# Altium integrated library Altera Cyclone III.IntLib: 225 symbols (part 29 of 48)
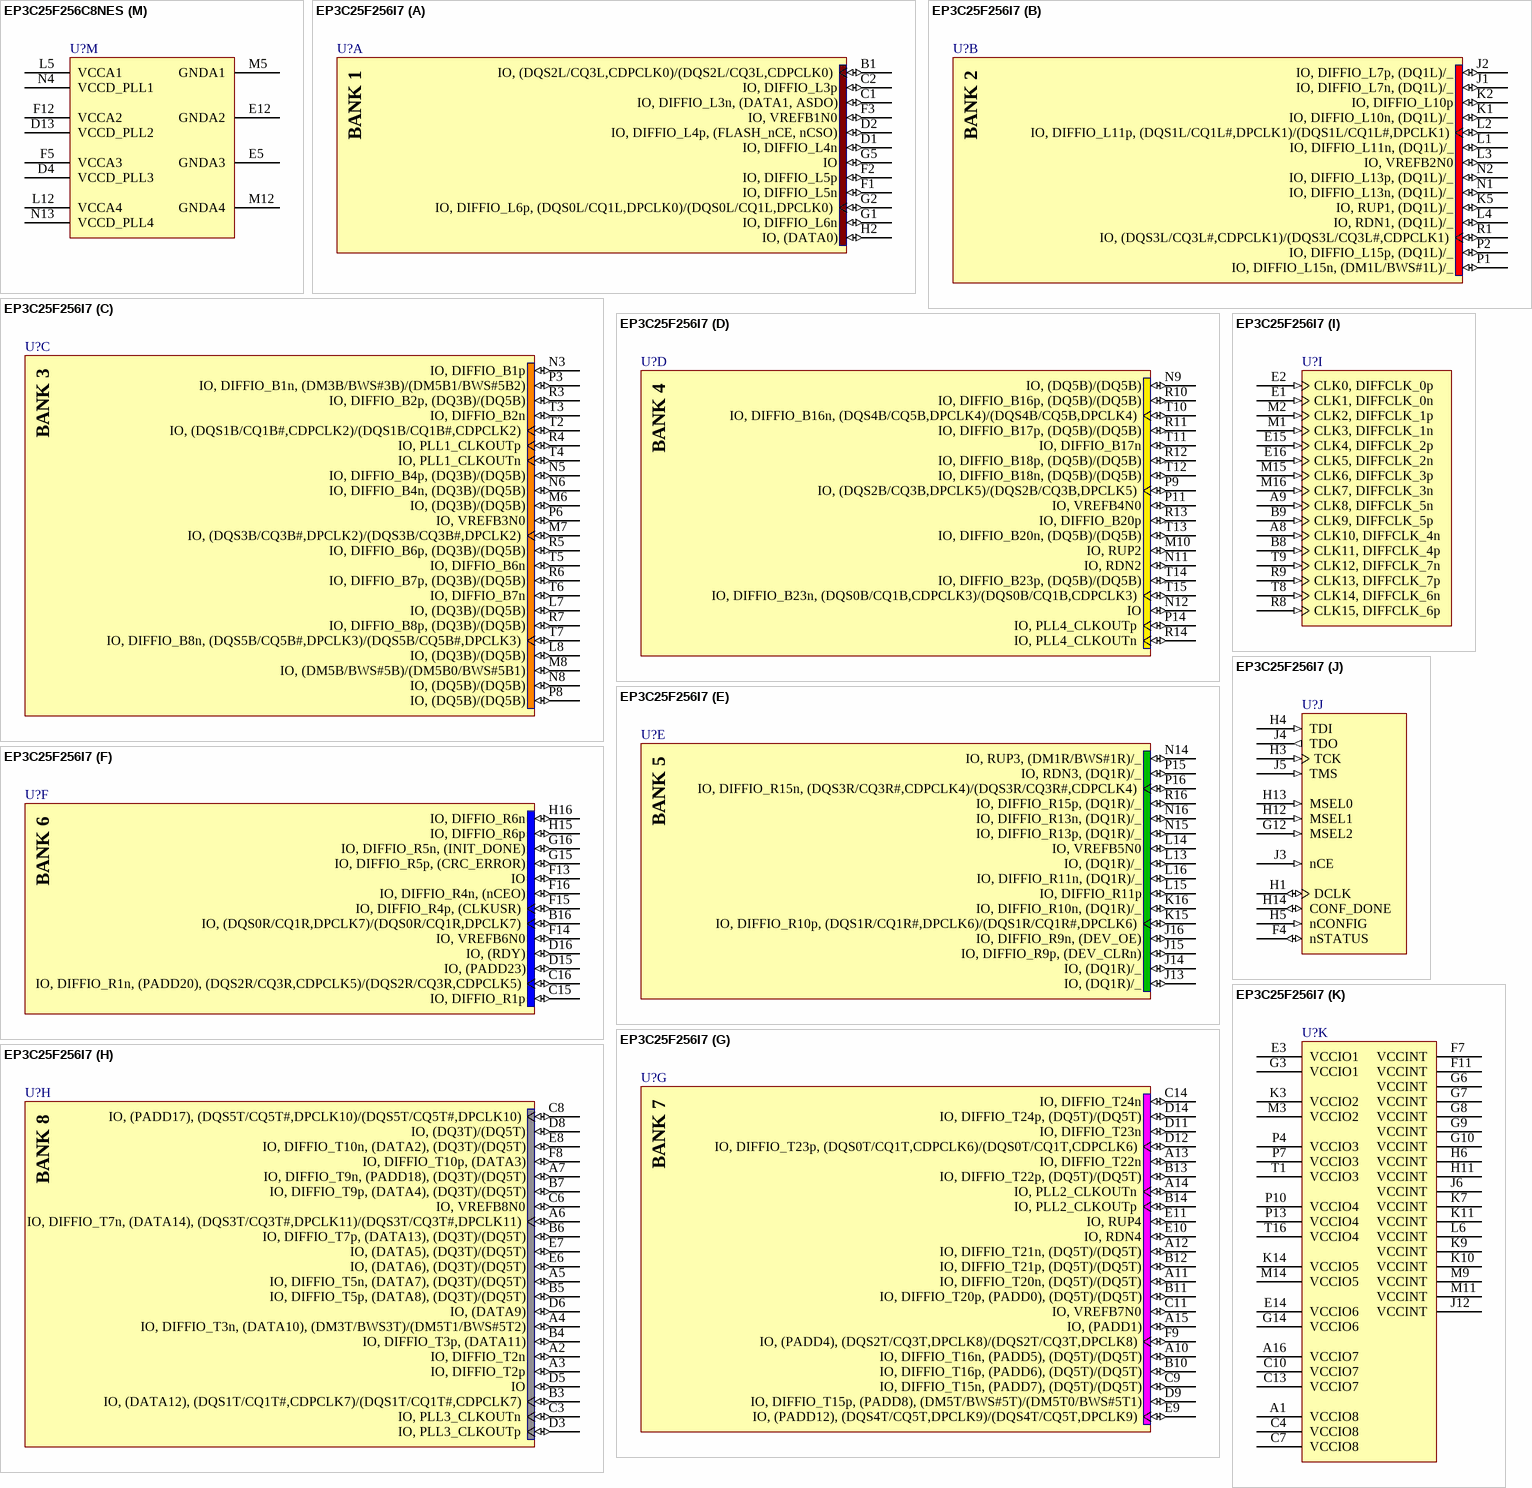
[diagram p418: symbols EP3C25F256C8NES to EP3C25F256I7]

## EP3C25F256C8NES
designator U?
Cyclone III Family FPGA, 156 I/O Pins, 4 PLLs, 256-Pin FBGA, Speed Grade 8, Commercial Grade, Pb-Free, Engineering Sample; Published: 14-Mar-2008; DatasheetVersion: ver2.0, May-2008; PackageVersion: ver15.1, May-2008; PackageReference: FBGA256-2; Publisher: Altium Limited; PackageDescription: 256-Ball FineLine Ball Grid Array (FBGA256) - Option 2 - Wire Bond; Code_JEDEC: MO-192-DAF-1; ComponentLink1Description: Manufacturer Link; ComponentLink1URL: http://www.altera.com/; ComponentLink2Description: Handbook (7.86MB); ComponentLink2URL: http://www.altera.com/literature/hb/cyc3/cyclone3_handbook.pdf; ComponentLink3Description: Packaging Specification; ComponentLink3URL: http://www.altera.com/literature/ds/dspkg.pdf
footprint FBGA256-2 (BGA, 256-Leads, Body 17x17mm, Pitch 1mm)
3D model EP3C25-FBGA256-2 (256-Ball FineLine Ball Grid Array (FBGA256) - Option 2 - Wire Bond)
signal-integrity model EP3C25_F256 (Cyclone III)
part A pins: B1 IO, (DQS2L/CQ3L,CDPCLK0)/(DQS2L/CQ3L,CDPCLK0) (io), C1 IO, DIFFIO_L3n, (DATA1, ASDO) (io), C2 IO, DIFFIO_L3p (io), D1 IO, DIFFIO_L4n (io), D2 IO, DIFFIO_L4p, (FLASH_nCE, nCSO) (io), F1 IO, DIFFIO_L5n (io), F2 IO, DIFFIO_L5p (io), F3 IO, VREFB1N0 (io), G1 IO, DIFFIO_L6n (io), G2 IO, DIFFIO_L6p, (DQS0L/CQ1L,DPCLK0)/(DQS0L/CQ1L,DPCLK0) (io), G5 IO (io), H2 IO, (DATA0) (io)
part B pins: J1 IO, DIFFIO_L7n, (DQ1L)/_ (io), J2 IO, DIFFIO_L7p, (DQ1L)/_ (io), K1 IO, DIFFIO_L10n, (DQ1L)/_ (io), K2 IO, DIFFIO_L10p (io), K5 IO, RUP1, (DQ1L)/_ (io), L1 IO, DIFFIO_L11n, (DQ1L)/_ (io), L2 IO, DIFFIO_L11p, (DQS1L/CQ1L#,DPCLK1)/(DQS1L/CQ1L#,DPCLK1) (io), L3 IO, VREFB2N0 (io), L4 IO, RDN1, (DQ1L)/_ (io), N1 IO, DIFFIO_L13n, (DQ1L)/_ (io), N2 IO, DIFFIO_L13p, (DQ1L)/_ (io), P1 IO, DIFFIO_L15n, (DM1L/BWS#1L)/_ (io), P2 IO, DIFFIO_L15p, (DQ1L)/_ (io), R1 IO, (DQS3L/CQ3L#,CDPCLK1)/(DQS3L/CQ3L#,CDPCLK1) (io)
part C pins: L7 IO, (DQ3B)/(DQ5B) (io), L8 IO, (DQ3B)/(DQ5B) (io), M6 IO, (DQ3B)/(DQ5B) (io), M7 IO, (DQS3B/CQ3B#,DPCLK2)/(DQS3B/CQ3B#,DPCLK2) (io), M8 IO, (DM5B/BWS#5B)/(DM5B0/BWS#5B1) (io), N3 IO, DIFFIO_B1p (io), N5 IO, DIFFIO_B4p, (DQ3B)/(DQ5B) (io), N6 IO, DIFFIO_B4n, (DQ3B)/(DQ5B) (io), N8 IO, (DQ5B)/(DQ5B) (io), P3 IO, DIFFIO_B1n, (DM3B/BWS#3B)/(DM5B1/BWS#5B2) (io), P6 IO, VREFB3N0 (io), P8 IO, (DQ5B)/(DQ5B) (io), R3 IO, DIFFIO_B2p, (DQ3B)/(DQ5B) (io), R4 IO, PLL1_CLKOUTp (io), R5 IO, DIFFIO_B6p, (DQ3B)/(DQ5B) (io), R6 IO, DIFFIO_B7p, (DQ3B)/(DQ5B) (io), R7 IO, DIFFIO_B8p, (DQ3B)/(DQ5B) (io), T2 IO, (DQS1B/CQ1B#,CDPCLK2)/(DQS1B/CQ1B#,CDPCLK2) (io), T3 IO, DIFFIO_B2n (io), T4 IO, PLL1_CLKOUTn (io), T5 IO, DIFFIO_B6n (io), T6 IO, DIFFIO_B7n (io), T7 IO, DIFFIO_B8n, (DQS5B/CQ5B#,DPCLK3)/(DQS5B/CQ5B#,DPCLK3) (io)
part D pins: M10 IO, RUP2 (io), N9 IO, (DQ5B)/(DQ5B) (io), N11 IO, RDN2 (io), N12 IO (io), P9 IO, (DQS2B/CQ3B,DPCLK5)/(DQS2B/CQ3B,DPCLK5) (io), P11 IO, VREFB4N0 (io), P14 IO, PLL4_CLKOUTp (io), R10 IO, DIFFIO_B16p, (DQ5B)/(DQ5B) (io), R11 IO, DIFFIO_B17p, (DQ5B)/(DQ5B) (io), R12 IO, DIFFIO_B18p, (DQ5B)/(DQ5B) (io), R13 IO, DIFFIO_B20p (io), R14 IO, PLL4_CLKOUTn (io), T10 IO, DIFFIO_B16n, (DQS4B/CQ5B,DPCLK4)/(DQS4B/CQ5B,DPCLK4) (io), T11 IO, DIFFIO_B17n (io), T12 IO, DIFFIO_B18n, (DQ5B)/(DQ5B) (io), T13 IO, DIFFIO_B20n, (DQ5B)/(DQ5B) (io), T14 IO, DIFFIO_B23p, (DQ5B)/(DQ5B) (io), T15 IO, DIFFIO_B23n, (DQS0B/CQ1B,CDPCLK3)/(DQS0B/CQ1B,CDPCLK3) (io)
part E pins: J13 IO, (DQ1R)/_ (io), J14 IO, (DQ1R)/_ (io), J15 IO, DIFFIO_R9p, (DEV_CLRn) (io), J16 IO, DIFFIO_R9n, (DEV_OE) (io), K15 IO, DIFFIO_R10p, (DQS1R/CQ1R#,DPCLK6)/(DQS1R/CQ1R#,DPCLK6) (io), K16 IO, DIFFIO_R10n, (DQ1R)/_ (io), L13 IO, (DQ1R)/_ (io), L14 IO, VREFB5N0 (io), L15 IO, DIFFIO_R11p (io), L16 IO, DIFFIO_R11n, (DQ1R)/_ (io), N14 IO, RUP3, (DM1R/BWS#1R)/_ (io), N15 IO, DIFFIO_R13p, (DQ1R)/_ (io), N16 IO, DIFFIO_R13n, (DQ1R)/_ (io), P15 IO, RDN3, (DQ1R)/_ (io), P16 IO, DIFFIO_R15n, (DQS3R/CQ3R#,CDPCLK4)/(DQS3R/CQ3R#,CDPCLK4) (io), R16 IO, DIFFIO_R15p, (DQ1R)/_ (io)
part F pins: B16 IO, (DQS0R/CQ1R,DPCLK7)/(DQS0R/CQ1R,DPCLK7) (io), C15 IO, DIFFIO_R1p (io), C16 IO, DIFFIO_R1n, (PADD20), (DQS2R/CQ3R,CDPCLK5)/(DQS2R/CQ3R,CDPCLK5) (io), D15 IO, (PADD23) (io), D16 IO, (RDY) (io), F13 IO (io), F14 IO, VREFB6N0 (io), F15 IO, DIFFIO_R4p, (CLKUSR) (io), F16 IO, DIFFIO_R4n, (nCEO) (io), G15 IO, DIFFIO_R5p, (CRC_ERROR) (io), G16 IO, DIFFIO_R5n, (INIT_DONE) (io), H15 IO, DIFFIO_R6p (io), H16 IO, DIFFIO_R6n (io)
part G pins: A10 IO, DIFFIO_T16n, (PADD5), (DQ5T)/(DQ5T) (io), A11 IO, DIFFIO_T20n, (DQ5T)/(DQ5T) (io), A12 IO, DIFFIO_T21n, (DQ5T)/(DQ5T) (io), A13 IO, DIFFIO_T22n (io), A14 IO, PLL2_CLKOUTn (io), A15 IO, (PADD1) (io), B10 IO, DIFFIO_T16p, (PADD6), (DQ5T)/(DQ5T) (io), B11 IO, DIFFIO_T20p, (PADD0), (DQ5T)/(DQ5T) (io), B12 IO, DIFFIO_T21p, (DQ5T)/(DQ5T) (io), B13 IO, DIFFIO_T22p, (DQ5T)/(DQ5T) (io), B14 IO, PLL2_CLKOUTp (io), C9 IO, DIFFIO_T15n, (PADD7), (DQ5T)/(DQ5T) (io), C11 IO, VREFB7N0 (io), C14 IO, DIFFIO_T24n (io), D9 IO, DIFFIO_T15p, (PADD8), (DM5T/BWS#5T)/(DM5T0/BWS#5T1) (io), D11 IO, DIFFIO_T23n (io), D12 IO, DIFFIO_T23p, (DQS0T/CQ1T,CDPCLK6)/(DQS0T/CQ1T,CDPCLK6) (io), D14 IO, DIFFIO_T24p, (DQ5T)/(DQ5T) (io), E9 IO, (PADD12), (DQS4T/CQ5T,DPCLK9)/(DQS4T/CQ5T,DPCLK9) (io), E10 IO, RDN4 (io), E11 IO, RUP4 (io), F9 IO, (PADD4), (DQS2T/CQ3T,DPCLK8)/(DQS2T/CQ3T,DPCLK8) (io)
part H pins: A2 IO, DIFFIO_T2n (io), A3 IO, DIFFIO_T2p (io), A4 IO, DIFFIO_T3n, (DATA10), (DM3T/BWS3T)/(DM5T1/BWS#5T2) (io), A5 IO, DIFFIO_T5n, (DATA7), (DQ3T)/(DQ5T) (io), A6 IO, DIFFIO_T7n, (DATA14), (DQS3T/CQ3T#,DPCLK11)/(DQS3T/CQ3T#,DPCLK11) (io), A7 IO, DIFFIO_T9n, (PADD18), (DQ3T)/(DQ5T) (io), B3 IO, (DATA12), (DQS1T/CQ1T#,CDPCLK7)/(DQS1T/CQ1T#,CDPCLK7) (io), B4 IO, DIFFIO_T3p, (DATA11) (io), B5 IO, DIFFIO_T5p, (DATA8), (DQ3T)/(DQ5T) (io), B6 IO, DIFFIO_T7p, (DATA13), (DQ3T)/(DQ5T) (io), B7 IO, DIFFIO_T9p, (DATA4), (DQ3T)/(DQ5T) (io), C3 IO, PLL3_CLKOUTn (io), C6 IO, VREFB8N0 (io), C8 IO, (PADD17), (DQS5T/CQ5T#,DPCLK10)/(DQS5T/CQ5T#,DPCLK10) (io), D3 IO, PLL3_CLKOUTp (io), D5 IO (io), D6 IO, (DATA9) (io), D8 IO, (DQ3T)/(DQ5T) (io), E6 IO, (DATA6), (DQ3T)/(DQ5T) (io), E7 IO, (DATA5), (DQ3T)/(DQ5T) (io), E8 IO, DIFFIO_T10n, (DATA2), (DQ3T)/(DQ5T) (io), F8 IO, DIFFIO_T10p, (DATA3) (io)
part I pins: A8 CLK10, DIFFCLK_4n (in), A9 CLK8, DIFFCLK_5n (in), B8 CLK11, DIFFCLK_4p (in), B9 CLK9, DIFFCLK_5p (in), E1 CLK1, DIFFCLK_0n (in), E2 CLK0, DIFFCLK_0p (in), E15 CLK4, DIFFCLK_2p (in), E16 CLK5, DIFFCLK_2n (in), M1 CLK3, DIFFCLK_1n (in), M2 CLK2, DIFFCLK_1p (in), M15 CLK6, DIFFCLK_3p (in), M16 CLK7, DIFFCLK_3n (in), R8 CLK15, DIFFCLK_6p (in), R9 CLK13, DIFFCLK_7p (in), T8 CLK14, DIFFCLK_6n (in), T9 CLK12, DIFFCLK_7n (in)
part J pins: F4 nSTATUS (io), G12 MSEL2 (in), H1 DCLK (io), H3 TCK (in), H4 TDI (in), H5 nCONFIG (in), H12 MSEL1 (in), H13 MSEL0 (in), H14 CONF_DONE (io), J3 nCE (in), J4 TDO (out), J5 TMS (in)
part K pins: A1 VCCIO8 (power), A16 VCCIO7 (power), C4 VCCIO8 (power), C7 VCCIO8 (power), C10 VCCIO7 (power), C13 VCCIO7 (power), E3 VCCIO1 (power), E14 VCCIO6 (power), F7 VCCINT (power), F11 VCCINT (power), G3 VCCIO1 (power), G6 VCCINT (power), G7 VCCINT (power), G8 VCCINT (power), G9 VCCINT (power), G10 VCCINT (power), G14 VCCIO6 (power), H6 VCCINT (power), H11 VCCINT (power), J6 VCCINT (power), J12 VCCINT (power), K3 VCCIO2 (power), K7 VCCINT (power), K9 VCCINT (power), K10 VCCINT (power), K11 VCCINT (power), K14 VCCIO5 (power), L6 VCCINT (power), M3 VCCIO2 (power), M9 VCCINT (power), M11 VCCINT (power), M14 VCCIO5 (power), P4 VCCIO3 (power), P7 VCCIO3 (power), P10 VCCIO4 (power), P13 VCCIO4 (power), T1 VCCIO3 (power), T16 VCCIO4 (power)
part L pins: B2 GND (power), B15 GND (power), C5 GND (power), C12 GND (power), D7 GND (power), D10 GND (power), E4 GND (power), E13 GND (power), F6 GND (power), F10 GND (power), G4 GND (power), G11 GND (power), G13 GND (power), H7 GND (power), H8 GND (power), H9 GND (power), H10 GND (power), J7 GND (power), J8 GND (power), J9 GND (power), J10 GND (power), J11 GND (power), K4 GND (power), K6 GND (power), K8 GND (power), K12 GND (power), K13 GND (power), L9 GND (power), L10 GND (power), L11 GND (power), M4 GND (power), M13 GND (power), N7 GND (power), N10 GND (power), P5 GND (power), P12 GND (power), R2 GND (power), R15 GND (power)
part M pins: D4 VCCD_PLL3 (power), D13 VCCD_PLL2 (power), E5 GNDA3 (power), E12 GNDA2 (power), F5 VCCA3 (power), F12 VCCA2 (power), L5 VCCA1 (power), L12 VCCA4 (power), M5 GNDA1 (power), M12 GNDA4 (power), N4 VCCD_PLL1 (power), N13 VCCD_PLL4 (power)
part A text: BANK 1
part B text: BANK 2
part C text: BANK 3
part D text: BANK 4
part E text: BANK 5
part F text: BANK 6
part G text: BANK 7
part H text: BANK 8

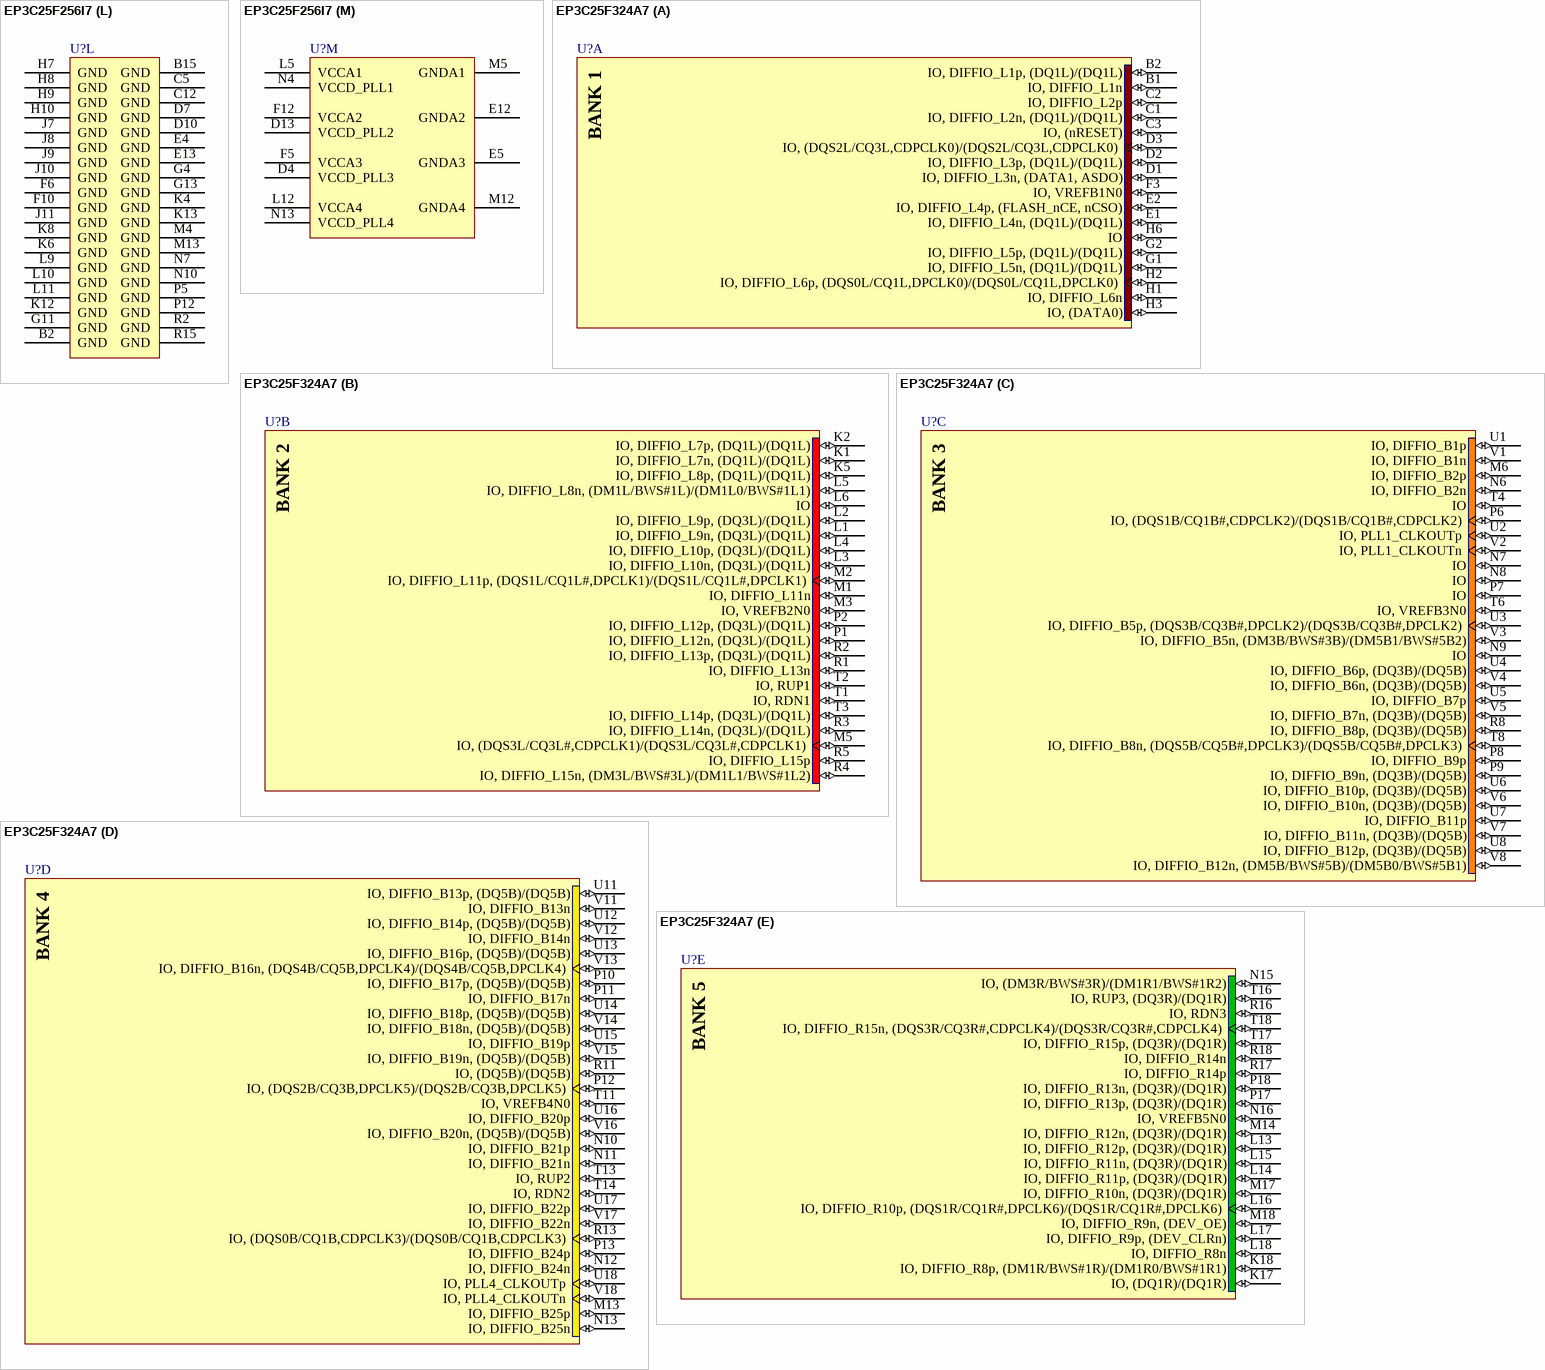
[diagram p139: symbols EP3C25F256I7 to EP3C25F324A7]

## EP3C25F256I7
designator U?
Cyclone III Family FPGA, 156 I/O Pins, 4 PLLs, 256-Pin FBGA, Speed Grade 7, Industrial Grade; Published: 26-Feb-2007; DatasheetVersion: ver2.0, May-2008; PackageVersion: ver15.1, May-2008; PackageReference: FBGA256-2; Publisher: Altium Limited; PackageDescription: 256-Ball FineLine Ball Grid Array (FBGA256) - Option 2 - Wire Bond; Code_JEDEC: MO-192-DAF-1; ComponentLink1Description: Manufacturer Link; ComponentLink1URL: http://www.altera.com/; ComponentLink2Description: Handbook (7.86MB); ComponentLink2URL: http://www.altera.com/literature/hb/cyc3/cyclone3_handbook.pdf; ComponentLink3Description: Packaging Specification; ComponentLink3URL: http://www.altera.com/literature/ds/dspkg.pdf
footprint FBGA256-2 (BGA, 256-Leads, Body 17x17mm, Pitch 1mm)
3D model EP3C25-FBGA256-2 (256-Ball FineLine Ball Grid Array (FBGA256) - Option 2 - Wire Bond)
signal-integrity model EP3C25_F256 (Cyclone III)
part A pins: B1 IO, (DQS2L/CQ3L,CDPCLK0)/(DQS2L/CQ3L,CDPCLK0) (io), C1 IO, DIFFIO_L3n, (DATA1, ASDO) (io), C2 IO, DIFFIO_L3p (io), D1 IO, DIFFIO_L4n (io), D2 IO, DIFFIO_L4p, (FLASH_nCE, nCSO) (io), F1 IO, DIFFIO_L5n (io), F2 IO, DIFFIO_L5p (io), F3 IO, VREFB1N0 (io), G1 IO, DIFFIO_L6n (io), G2 IO, DIFFIO_L6p, (DQS0L/CQ1L,DPCLK0)/(DQS0L/CQ1L,DPCLK0) (io), G5 IO (io), H2 IO, (DATA0) (io)
part B pins: J1 IO, DIFFIO_L7n, (DQ1L)/_ (io), J2 IO, DIFFIO_L7p, (DQ1L)/_ (io), K1 IO, DIFFIO_L10n, (DQ1L)/_ (io), K2 IO, DIFFIO_L10p (io), K5 IO, RUP1, (DQ1L)/_ (io), L1 IO, DIFFIO_L11n, (DQ1L)/_ (io), L2 IO, DIFFIO_L11p, (DQS1L/CQ1L#,DPCLK1)/(DQS1L/CQ1L#,DPCLK1) (io), L3 IO, VREFB2N0 (io), L4 IO, RDN1, (DQ1L)/_ (io), N1 IO, DIFFIO_L13n, (DQ1L)/_ (io), N2 IO, DIFFIO_L13p, (DQ1L)/_ (io), P1 IO, DIFFIO_L15n, (DM1L/BWS#1L)/_ (io), P2 IO, DIFFIO_L15p, (DQ1L)/_ (io), R1 IO, (DQS3L/CQ3L#,CDPCLK1)/(DQS3L/CQ3L#,CDPCLK1) (io)
part C pins: L7 IO, (DQ3B)/(DQ5B) (io), L8 IO, (DQ3B)/(DQ5B) (io), M6 IO, (DQ3B)/(DQ5B) (io), M7 IO, (DQS3B/CQ3B#,DPCLK2)/(DQS3B/CQ3B#,DPCLK2) (io), M8 IO, (DM5B/BWS#5B)/(DM5B0/BWS#5B1) (io), N3 IO, DIFFIO_B1p (io), N5 IO, DIFFIO_B4p, (DQ3B)/(DQ5B) (io), N6 IO, DIFFIO_B4n, (DQ3B)/(DQ5B) (io), N8 IO, (DQ5B)/(DQ5B) (io), P3 IO, DIFFIO_B1n, (DM3B/BWS#3B)/(DM5B1/BWS#5B2) (io), P6 IO, VREFB3N0 (io), P8 IO, (DQ5B)/(DQ5B) (io), R3 IO, DIFFIO_B2p, (DQ3B)/(DQ5B) (io), R4 IO, PLL1_CLKOUTp (io), R5 IO, DIFFIO_B6p, (DQ3B)/(DQ5B) (io), R6 IO, DIFFIO_B7p, (DQ3B)/(DQ5B) (io), R7 IO, DIFFIO_B8p, (DQ3B)/(DQ5B) (io), T2 IO, (DQS1B/CQ1B#,CDPCLK2)/(DQS1B/CQ1B#,CDPCLK2) (io), T3 IO, DIFFIO_B2n (io), T4 IO, PLL1_CLKOUTn (io), T5 IO, DIFFIO_B6n (io), T6 IO, DIFFIO_B7n (io), T7 IO, DIFFIO_B8n, (DQS5B/CQ5B#,DPCLK3)/(DQS5B/CQ5B#,DPCLK3) (io)
part D pins: M10 IO, RUP2 (io), N9 IO, (DQ5B)/(DQ5B) (io), N11 IO, RDN2 (io), N12 IO (io), P9 IO, (DQS2B/CQ3B,DPCLK5)/(DQS2B/CQ3B,DPCLK5) (io), P11 IO, VREFB4N0 (io), P14 IO, PLL4_CLKOUTp (io), R10 IO, DIFFIO_B16p, (DQ5B)/(DQ5B) (io), R11 IO, DIFFIO_B17p, (DQ5B)/(DQ5B) (io), R12 IO, DIFFIO_B18p, (DQ5B)/(DQ5B) (io), R13 IO, DIFFIO_B20p (io), R14 IO, PLL4_CLKOUTn (io), T10 IO, DIFFIO_B16n, (DQS4B/CQ5B,DPCLK4)/(DQS4B/CQ5B,DPCLK4) (io), T11 IO, DIFFIO_B17n (io), T12 IO, DIFFIO_B18n, (DQ5B)/(DQ5B) (io), T13 IO, DIFFIO_B20n, (DQ5B)/(DQ5B) (io), T14 IO, DIFFIO_B23p, (DQ5B)/(DQ5B) (io), T15 IO, DIFFIO_B23n, (DQS0B/CQ1B,CDPCLK3)/(DQS0B/CQ1B,CDPCLK3) (io)
part E pins: J13 IO, (DQ1R)/_ (io), J14 IO, (DQ1R)/_ (io), J15 IO, DIFFIO_R9p, (DEV_CLRn) (io), J16 IO, DIFFIO_R9n, (DEV_OE) (io), K15 IO, DIFFIO_R10p, (DQS1R/CQ1R#,DPCLK6)/(DQS1R/CQ1R#,DPCLK6) (io), K16 IO, DIFFIO_R10n, (DQ1R)/_ (io), L13 IO, (DQ1R)/_ (io), L14 IO, VREFB5N0 (io), L15 IO, DIFFIO_R11p (io), L16 IO, DIFFIO_R11n, (DQ1R)/_ (io), N14 IO, RUP3, (DM1R/BWS#1R)/_ (io), N15 IO, DIFFIO_R13p, (DQ1R)/_ (io), N16 IO, DIFFIO_R13n, (DQ1R)/_ (io), P15 IO, RDN3, (DQ1R)/_ (io), P16 IO, DIFFIO_R15n, (DQS3R/CQ3R#,CDPCLK4)/(DQS3R/CQ3R#,CDPCLK4) (io), R16 IO, DIFFIO_R15p, (DQ1R)/_ (io)
part F pins: B16 IO, (DQS0R/CQ1R,DPCLK7)/(DQS0R/CQ1R,DPCLK7) (io), C15 IO, DIFFIO_R1p (io), C16 IO, DIFFIO_R1n, (PADD20), (DQS2R/CQ3R,CDPCLK5)/(DQS2R/CQ3R,CDPCLK5) (io), D15 IO, (PADD23) (io), D16 IO, (RDY) (io), F13 IO (io), F14 IO, VREFB6N0 (io), F15 IO, DIFFIO_R4p, (CLKUSR) (io), F16 IO, DIFFIO_R4n, (nCEO) (io), G15 IO, DIFFIO_R5p, (CRC_ERROR) (io), G16 IO, DIFFIO_R5n, (INIT_DONE) (io), H15 IO, DIFFIO_R6p (io), H16 IO, DIFFIO_R6n (io)
part G pins: A10 IO, DIFFIO_T16n, (PADD5), (DQ5T)/(DQ5T) (io), A11 IO, DIFFIO_T20n, (DQ5T)/(DQ5T) (io), A12 IO, DIFFIO_T21n, (DQ5T)/(DQ5T) (io), A13 IO, DIFFIO_T22n (io), A14 IO, PLL2_CLKOUTn (io), A15 IO, (PADD1) (io), B10 IO, DIFFIO_T16p, (PADD6), (DQ5T)/(DQ5T) (io), B11 IO, DIFFIO_T20p, (PADD0), (DQ5T)/(DQ5T) (io), B12 IO, DIFFIO_T21p, (DQ5T)/(DQ5T) (io), B13 IO, DIFFIO_T22p, (DQ5T)/(DQ5T) (io), B14 IO, PLL2_CLKOUTp (io), C9 IO, DIFFIO_T15n, (PADD7), (DQ5T)/(DQ5T) (io), C11 IO, VREFB7N0 (io), C14 IO, DIFFIO_T24n (io), D9 IO, DIFFIO_T15p, (PADD8), (DM5T/BWS#5T)/(DM5T0/BWS#5T1) (io), D11 IO, DIFFIO_T23n (io), D12 IO, DIFFIO_T23p, (DQS0T/CQ1T,CDPCLK6)/(DQS0T/CQ1T,CDPCLK6) (io), D14 IO, DIFFIO_T24p, (DQ5T)/(DQ5T) (io), E9 IO, (PADD12), (DQS4T/CQ5T,DPCLK9)/(DQS4T/CQ5T,DPCLK9) (io), E10 IO, RDN4 (io), E11 IO, RUP4 (io), F9 IO, (PADD4), (DQS2T/CQ3T,DPCLK8)/(DQS2T/CQ3T,DPCLK8) (io)
part H pins: A2 IO, DIFFIO_T2n (io), A3 IO, DIFFIO_T2p (io), A4 IO, DIFFIO_T3n, (DATA10), (DM3T/BWS3T)/(DM5T1/BWS#5T2) (io), A5 IO, DIFFIO_T5n, (DATA7), (DQ3T)/(DQ5T) (io), A6 IO, DIFFIO_T7n, (DATA14), (DQS3T/CQ3T#,DPCLK11)/(DQS3T/CQ3T#,DPCLK11) (io), A7 IO, DIFFIO_T9n, (PADD18), (DQ3T)/(DQ5T) (io), B3 IO, (DATA12), (DQS1T/CQ1T#,CDPCLK7)/(DQS1T/CQ1T#,CDPCLK7) (io), B4 IO, DIFFIO_T3p, (DATA11) (io), B5 IO, DIFFIO_T5p, (DATA8), (DQ3T)/(DQ5T) (io), B6 IO, DIFFIO_T7p, (DATA13), (DQ3T)/(DQ5T) (io), B7 IO, DIFFIO_T9p, (DATA4), (DQ3T)/(DQ5T) (io), C3 IO, PLL3_CLKOUTn (io), C6 IO, VREFB8N0 (io), C8 IO, (PADD17), (DQS5T/CQ5T#,DPCLK10)/(DQS5T/CQ5T#,DPCLK10) (io), D3 IO, PLL3_CLKOUTp (io), D5 IO (io), D6 IO, (DATA9) (io), D8 IO, (DQ3T)/(DQ5T) (io), E6 IO, (DATA6), (DQ3T)/(DQ5T) (io), E7 IO, (DATA5), (DQ3T)/(DQ5T) (io), E8 IO, DIFFIO_T10n, (DATA2), (DQ3T)/(DQ5T) (io), F8 IO, DIFFIO_T10p, (DATA3) (io)
part I pins: A8 CLK10, DIFFCLK_4n (in), A9 CLK8, DIFFCLK_5n (in), B8 CLK11, DIFFCLK_4p (in), B9 CLK9, DIFFCLK_5p (in), E1 CLK1, DIFFCLK_0n (in), E2 CLK0, DIFFCLK_0p (in), E15 CLK4, DIFFCLK_2p (in), E16 CLK5, DIFFCLK_2n (in), M1 CLK3, DIFFCLK_1n (in), M2 CLK2, DIFFCLK_1p (in), M15 CLK6, DIFFCLK_3p (in), M16 CLK7, DIFFCLK_3n (in), R8 CLK15, DIFFCLK_6p (in), R9 CLK13, DIFFCLK_7p (in), T8 CLK14, DIFFCLK_6n (in), T9 CLK12, DIFFCLK_7n (in)
part J pins: F4 nSTATUS (io), G12 MSEL2 (in), H1 DCLK (io), H3 TCK (in), H4 TDI (in), H5 nCONFIG (in), H12 MSEL1 (in), H13 MSEL0 (in), H14 CONF_DONE (io), J3 nCE (in), J4 TDO (out), J5 TMS (in)
part K pins: A1 VCCIO8 (power), A16 VCCIO7 (power), C4 VCCIO8 (power), C7 VCCIO8 (power), C10 VCCIO7 (power), C13 VCCIO7 (power), E3 VCCIO1 (power), E14 VCCIO6 (power), F7 VCCINT (power), F11 VCCINT (power), G3 VCCIO1 (power), G6 VCCINT (power), G7 VCCINT (power), G8 VCCINT (power), G9 VCCINT (power), G10 VCCINT (power), G14 VCCIO6 (power), H6 VCCINT (power), H11 VCCINT (power), J6 VCCINT (power), J12 VCCINT (power), K3 VCCIO2 (power), K7 VCCINT (power), K9 VCCINT (power), K10 VCCINT (power), K11 VCCINT (power), K14 VCCIO5 (power), L6 VCCINT (power), M3 VCCIO2 (power), M9 VCCINT (power), M11 VCCINT (power), M14 VCCIO5 (power), P4 VCCIO3 (power), P7 VCCIO3 (power), P10 VCCIO4 (power), P13 VCCIO4 (power), T1 VCCIO3 (power), T16 VCCIO4 (power)
part L pins: B2 GND (power), B15 GND (power), C5 GND (power), C12 GND (power), D7 GND (power), D10 GND (power), E4 GND (power), E13 GND (power), F6 GND (power), F10 GND (power), G4 GND (power), G11 GND (power), G13 GND (power), H7 GND (power), H8 GND (power), H9 GND (power), H10 GND (power), J7 GND (power), J8 GND (power), J9 GND (power), J10 GND (power), J11 GND (power), K4 GND (power), K6 GND (power), K8 GND (power), K12 GND (power), K13 GND (power), L9 GND (power), L10 GND (power), L11 GND (power), M4 GND (power), M13 GND (power), N7 GND (power), N10 GND (power), P5 GND (power), P12 GND (power), R2 GND (power), R15 GND (power)
part M pins: D4 VCCD_PLL3 (power), D13 VCCD_PLL2 (power), E5 GNDA3 (power), E12 GNDA2 (power), F5 VCCA3 (power), F12 VCCA2 (power), L5 VCCA1 (power), L12 VCCA4 (power), M5 GNDA1 (power), M12 GNDA4 (power), N4 VCCD_PLL1 (power), N13 VCCD_PLL4 (power)
part A text: BANK 1
part B text: BANK 2
part C text: BANK 3
part D text: BANK 4
part E text: BANK 5
part F text: BANK 6
part G text: BANK 7
part H text: BANK 8

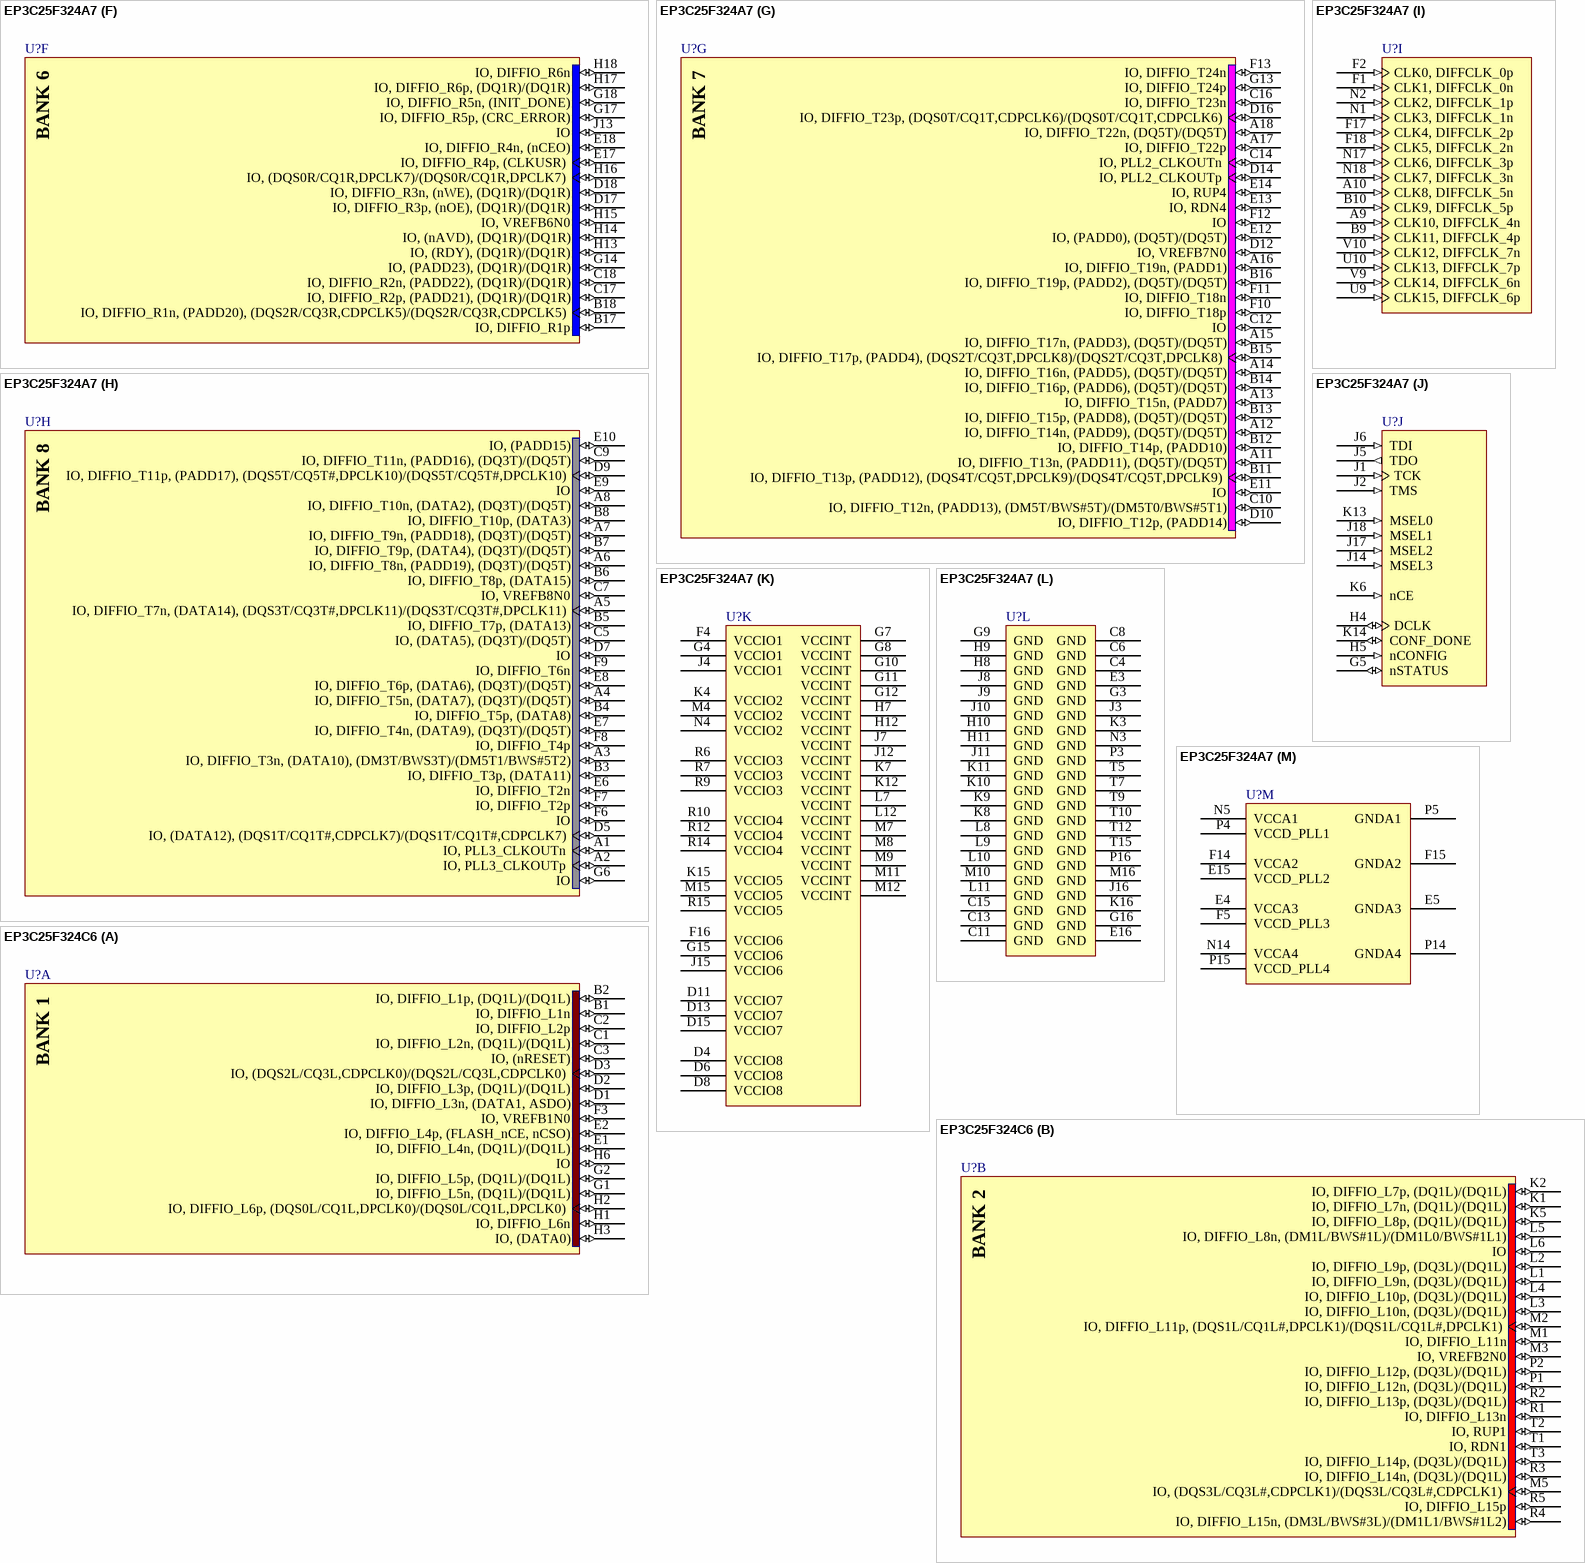
[diagram p140: symbols EP3C25F324A7 to EP3C25F324C6]

## EP3C25F324A7
designator U?
Cyclone III Family FPGA, 215 I/O Pins, 4 PLLs, 324-Pin FBGA, Speed Grade 7, Automotive Grade, Pb-free; Published: 27-Jun-2008; DatasheetVersion: ver2.0, May-2008; PackageVersion: ver15.1, May-2008; PackageReference: FBGA324; Publisher: Altium Limited; PackageDescription: 324-Ball FineLine Ball Grid Array (FBGA324) - Wire Bond; Code_JEDEC: MS-034-AAG-1; Code_IPC: BGA100P18X18-324; ComponentLink1Description: Manufacturer Link; ComponentLink1URL: http://www.altera.com/; ComponentLink2Description: Handbook (7.86MB); ComponentLink2URL: http://www.altera.com/literature/hb/cyc3/cyclone3_handbook.pdf; ComponentLink3Description: Packaging Specification; ComponentLink3URL: http://www.altera.com/literature/ds/dspkg.pdf
footprint FBGA324 (BGA, 324-Leads, Body 19x19mm, Pitch 1mm)
3D model EP3C25-FBGA324 (324-Ball FineLine Ball Grid Array (FBGA324) - Wire Bond)
signal-integrity model EP3C25_F324 (Cyclone III)
part A pins: B1 IO, DIFFIO_L1n (io), B2 IO, DIFFIO_L1p, (DQ1L)/(DQ1L) (io), C1 IO, DIFFIO_L2n, (DQ1L)/(DQ1L) (io), C2 IO, DIFFIO_L2p (io), C3 IO, (nRESET) (io), D1 IO, DIFFIO_L3n, (DATA1, ASDO) (io), D2 IO, DIFFIO_L3p, (DQ1L)/(DQ1L) (io), D3 IO, (DQS2L/CQ3L,CDPCLK0)/(DQS2L/CQ3L,CDPCLK0) (io), E1 IO, DIFFIO_L4n, (DQ1L)/(DQ1L) (io), E2 IO, DIFFIO_L4p, (FLASH_nCE, nCSO) (io), F3 IO, VREFB1N0 (io), G1 IO, DIFFIO_L5n, (DQ1L)/(DQ1L) (io), G2 IO, DIFFIO_L5p, (DQ1L)/(DQ1L) (io), H1 IO, DIFFIO_L6n (io), H2 IO, DIFFIO_L6p, (DQS0L/CQ1L,DPCLK0)/(DQS0L/CQ1L,DPCLK0) (io), H3 IO, (DATA0) (io), H6 IO (io)
part B pins: K1 IO, DIFFIO_L7n, (DQ1L)/(DQ1L) (io), K2 IO, DIFFIO_L7p, (DQ1L)/(DQ1L) (io), K5 IO, DIFFIO_L8p, (DQ1L)/(DQ1L) (io), L1 IO, DIFFIO_L9n, (DQ3L)/(DQ1L) (io), L2 IO, DIFFIO_L9p, (DQ3L)/(DQ1L) (io), L3 IO, DIFFIO_L10n, (DQ3L)/(DQ1L) (io), L4 IO, DIFFIO_L10p, (DQ3L)/(DQ1L) (io), L5 IO, DIFFIO_L8n, (DM1L/BWS#1L)/(DM1L0/BWS#1L1) (io), L6 IO (io), M1 IO, DIFFIO_L11n (io), M2 IO, DIFFIO_L11p, (DQS1L/CQ1L#,DPCLK1)/(DQS1L/CQ1L#,DPCLK1) (io), M3 IO, VREFB2N0 (io), M5 IO, (DQS3L/CQ3L#,CDPCLK1)/(DQS3L/CQ3L#,CDPCLK1) (io), P1 IO, DIFFIO_L12n, (DQ3L)/(DQ1L) (io), P2 IO, DIFFIO_L12p, (DQ3L)/(DQ1L) (io), R1 IO, DIFFIO_L13n (io), R2 IO, DIFFIO_L13p, (DQ3L)/(DQ1L) (io), R3 IO, DIFFIO_L14n, (DQ3L)/(DQ1L) (io), R4 IO, DIFFIO_L15n, (DM3L/BWS#3L)/(DM1L1/BWS#1L2) (io), R5 IO, DIFFIO_L15p (io), T1 IO, RDN1 (io), T2 IO, RUP1 (io), T3 IO, DIFFIO_L14p, (DQ3L)/(DQ1L) (io)
part C pins: M6 IO, DIFFIO_B2p (io), N6 IO, DIFFIO_B2n (io), N7 IO (io), N8 IO (io), N9 IO (io), P6 IO, (DQS1B/CQ1B#,CDPCLK2)/(DQS1B/CQ1B#,CDPCLK2) (io), P7 IO (io), P8 IO, DIFFIO_B9p (io), P9 IO, DIFFIO_B9n, (DQ3B)/(DQ5B) (io), R8 IO, DIFFIO_B8p, (DQ3B)/(DQ5B) (io), T4 IO (io), T6 IO, VREFB3N0 (io), T8 IO, DIFFIO_B8n, (DQS5B/CQ5B#,DPCLK3)/(DQS5B/CQ5B#,DPCLK3) (io), U1 IO, DIFFIO_B1p (io), U2 IO, PLL1_CLKOUTp (io), U3 IO, DIFFIO_B5p, (DQS3B/CQ3B#,DPCLK2)/(DQS3B/CQ3B#,DPCLK2) (io), U4 IO, DIFFIO_B6p, (DQ3B)/(DQ5B) (io), U5 IO, DIFFIO_B7p (io), U6 IO, DIFFIO_B10p, (DQ3B)/(DQ5B) (io), U7 IO, DIFFIO_B11p (io), U8 IO, DIFFIO_B12p, (DQ3B)/(DQ5B) (io), V1 IO, DIFFIO_B1n (io), V2 IO, PLL1_CLKOUTn (io), V3 IO, DIFFIO_B5n, (DM3B/BWS#3B)/(DM5B1/BWS#5B2) (io), V4 IO, DIFFIO_B6n, (DQ3B)/(DQ5B) (io), V5 IO, DIFFIO_B7n, (DQ3B)/(DQ5B) (io), V6 IO, DIFFIO_B10n, (DQ3B)/(DQ5B) (io), V7 IO, DIFFIO_B11n, (DQ3B)/(DQ5B) (io), V8 IO, DIFFIO_B12n, (DM5B/BWS#5B)/(DM5B0/BWS#5B1) (io)
part D pins: M13 IO, DIFFIO_B25p (io), N10 IO, DIFFIO_B21p (io), N11 IO, DIFFIO_B21n (io), N12 IO, DIFFIO_B24n (io), N13 IO, DIFFIO_B25n (io), P10 IO, DIFFIO_B17p, (DQ5B)/(DQ5B) (io), P11 IO, DIFFIO_B17n (io), P12 IO, (DQS2B/CQ3B,DPCLK5)/(DQS2B/CQ3B,DPCLK5) (io), P13 IO, DIFFIO_B24p (io), R11 IO, (DQ5B)/(DQ5B) (io), R13 IO, (DQS0B/CQ1B,CDPCLK3)/(DQS0B/CQ1B,CDPCLK3) (io), T11 IO, VREFB4N0 (io), T13 IO, RUP2 (io), T14 IO, RDN2 (io), U11 IO, DIFFIO_B13p, (DQ5B)/(DQ5B) (io), U12 IO, DIFFIO_B14p, (DQ5B)/(DQ5B) (io), U13 IO, DIFFIO_B16p, (DQ5B)/(DQ5B) (io), U14 IO, DIFFIO_B18p, (DQ5B)/(DQ5B) (io), U15 IO, DIFFIO_B19p (io), U16 IO, DIFFIO_B20p (io), U17 IO, DIFFIO_B22p (io), U18 IO, PLL4_CLKOUTp (io), V11 IO, DIFFIO_B13n (io), V12 IO, DIFFIO_B14n (io), V13 IO, DIFFIO_B16n, (DQS4B/CQ5B,DPCLK4)/(DQS4B/CQ5B,DPCLK4) (io), V14 IO, DIFFIO_B18n, (DQ5B)/(DQ5B) (io), V15 IO, DIFFIO_B19n, (DQ5B)/(DQ5B) (io), V16 IO, DIFFIO_B20n, (DQ5B)/(DQ5B) (io), V17 IO, DIFFIO_B22n (io), V18 IO, PLL4_CLKOUTn (io)
part E pins: K17 IO, (DQ1R)/(DQ1R) (io), K18 IO, DIFFIO_R8p, (DM1R/BWS#1R)/(DM1R0/BWS#1R1) (io), L13 IO, DIFFIO_R12p, (DQ3R)/(DQ1R) (io), L14 IO, DIFFIO_R11p, (DQ3R)/(DQ1R) (io), L15 IO, DIFFIO_R11n, (DQ3R)/(DQ1R) (io), L16 IO, DIFFIO_R10p, (DQS1R/CQ1R#,DPCLK6)/(DQS1R/CQ1R#,DPCLK6) (io), L17 IO, DIFFIO_R9p, (DEV_CLRn) (io), L18 IO, DIFFIO_R8n (io), M14 IO, DIFFIO_R12n, (DQ3R)/(DQ1R) (io), M17 IO, DIFFIO_R10n, (DQ3R)/(DQ1R) (io), M18 IO, DIFFIO_R9n, (DEV_OE) (io), N15 IO, (DM3R/BWS#3R)/(DM1R1/BWS#1R2) (io), N16 IO, VREFB5N0 (io), P17 IO, DIFFIO_R13p, (DQ3R)/(DQ1R) (io), P18 IO, DIFFIO_R13n, (DQ3R)/(DQ1R) (io), R16 IO, RDN3 (io), R17 IO, DIFFIO_R14p (io), R18 IO, DIFFIO_R14n (io), T16 IO, RUP3, (DQ3R)/(DQ1R) (io), T17 IO, DIFFIO_R15p, (DQ3R)/(DQ1R) (io), T18 IO, DIFFIO_R15n, (DQS3R/CQ3R#,CDPCLK4)/(DQS3R/CQ3R#,CDPCLK4) (io)
part F pins: B17 IO, DIFFIO_R1p (io), B18 IO, DIFFIO_R1n, (PADD20), (DQS2R/CQ3R,CDPCLK5)/(DQS2R/CQ3R,CDPCLK5) (io), C17 IO, DIFFIO_R2p, (PADD21), (DQ1R)/(DQ1R) (io), C18 IO, DIFFIO_R2n, (PADD22), (DQ1R)/(DQ1R) (io), D17 IO, DIFFIO_R3p, (nOE), (DQ1R)/(DQ1R) (io), D18 IO, DIFFIO_R3n, (nWE), (DQ1R)/(DQ1R) (io), E17 IO, DIFFIO_R4p, (CLKUSR) (io), E18 IO, DIFFIO_R4n, (nCEO) (io), G14 IO, (PADD23), (DQ1R)/(DQ1R) (io), G17 IO, DIFFIO_R5p, (CRC_ERROR) (io), G18 IO, DIFFIO_R5n, (INIT_DONE) (io), H13 IO, (RDY), (DQ1R)/(DQ1R) (io), H14 IO, (nAVD), (DQ1R)/(DQ1R) (io), H15 IO, VREFB6N0 (io), H16 IO, (DQS0R/CQ1R,DPCLK7)/(DQS0R/CQ1R,DPCLK7) (io), H17 IO, DIFFIO_R6p, (DQ1R)/(DQ1R) (io), H18 IO, DIFFIO_R6n (io), J13 IO (io)
part G pins: A11 IO, DIFFIO_T13n, (PADD11), (DQ5T)/(DQ5T) (io), A12 IO, DIFFIO_T14n, (PADD9), (DQ5T)/(DQ5T) (io), A13 IO, DIFFIO_T15n, (PADD7) (io), A14 IO, DIFFIO_T16n, (PADD5), (DQ5T)/(DQ5T) (io), A15 IO, DIFFIO_T17n, (PADD3), (DQ5T)/(DQ5T) (io), A16 IO, DIFFIO_T19n, (PADD1) (io), A17 IO, DIFFIO_T22p (io), A18 IO, DIFFIO_T22n, (DQ5T)/(DQ5T) (io), B11 IO, DIFFIO_T13p, (PADD12), (DQS4T/CQ5T,DPCLK9)/(DQS4T/CQ5T,DPCLK9) (io), B12 IO, DIFFIO_T14p, (PADD10) (io), B13 IO, DIFFIO_T15p, (PADD8), (DQ5T)/(DQ5T) (io), B14 IO, DIFFIO_T16p, (PADD6), (DQ5T)/(DQ5T) (io), B15 IO, DIFFIO_T17p, (PADD4), (DQS2T/CQ3T,DPCLK8)/(DQS2T/CQ3T,DPCLK8) (io), B16 IO, DIFFIO_T19p, (PADD2), (DQ5T)/(DQ5T) (io), C10 IO, DIFFIO_T12n, (PADD13), (DM5T/BWS#5T)/(DM5T0/BWS#5T1) (io), C12 IO (io), C14 IO, PLL2_CLKOUTn (io), C16 IO, DIFFIO_T23n (io), D10 IO, DIFFIO_T12p, (PADD14) (io), D12 IO, VREFB7N0 (io), D14 IO, PLL2_CLKOUTp (io), D16 IO, DIFFIO_T23p, (DQS0T/CQ1T,CDPCLK6)/(DQS0T/CQ1T,CDPCLK6) (io), E11 IO (io), E12 IO, (PADD0), (DQ5T)/(DQ5T) (io), E13 IO, RDN4 (io), E14 IO, RUP4 (io), F10 IO, DIFFIO_T18p (io), F11 IO, DIFFIO_T18n (io), F12 IO (io), F13 IO, DIFFIO_T24n (io), G13 IO, DIFFIO_T24p (io)
part H pins: A1 IO, PLL3_CLKOUTn (io), A2 IO, PLL3_CLKOUTp (io), A3 IO, DIFFIO_T3n, (DATA10), (DM3T/BWS3T)/(DM5T1/BWS#5T2) (io), A4 IO, DIFFIO_T5n, (DATA7), (DQ3T)/(DQ5T) (io), A5 IO, DIFFIO_T7n, (DATA14), (DQS3T/CQ3T#,DPCLK11)/(DQS3T/CQ3T#,DPCLK11) (io), A6 IO, DIFFIO_T8n, (PADD19), (DQ3T)/(DQ5T) (io), A7 IO, DIFFIO_T9n, (PADD18), (DQ3T)/(DQ5T) (io), A8 IO, DIFFIO_T10n, (DATA2), (DQ3T)/(DQ5T) (io), B3 IO, DIFFIO_T3p, (DATA11) (io), B4 IO, DIFFIO_T5p, (DATA8) (io), B5 IO, DIFFIO_T7p, (DATA13) (io), B6 IO, DIFFIO_T8p, (DATA15) (io), B7 IO, DIFFIO_T9p, (DATA4), (DQ3T)/(DQ5T) (io), B8 IO, DIFFIO_T10p, (DATA3) (io), C5 IO, (DATA5), (DQ3T)/(DQ5T) (io), C7 IO, VREFB8N0 (io), C9 IO, DIFFIO_T11n, (PADD16), (DQ3T)/(DQ5T) (io), D5 IO, (DATA12), (DQS1T/CQ1T#,CDPCLK7)/(DQS1T/CQ1T#,CDPCLK7) (io), D7 IO (io), D9 IO, DIFFIO_T11p, (PADD17), (DQS5T/CQ5T#,DPCLK10)/(DQS5T/CQ5T#,DPCLK10) (io), E6 IO, DIFFIO_T2n (io), E7 IO, DIFFIO_T4n, (DATA9), (DQ3T)/(DQ5T) (io), E8 IO, DIFFIO_T6p, (DATA6), (DQ3T)/(DQ5T) (io), E9 IO (io), E10 IO, (PADD15) (io), F6 IO (io), F7 IO, DIFFIO_T2p (io), F8 IO, DIFFIO_T4p (io), F9 IO, DIFFIO_T6n (io), G6 IO (io)
part I pins: A9 CLK10, DIFFCLK_4n (in), A10 CLK8, DIFFCLK_5n (in), B9 CLK11, DIFFCLK_4p (in), B10 CLK9, DIFFCLK_5p (in), F1 CLK1, DIFFCLK_0n (in), F2 CLK0, DIFFCLK_0p (in), F17 CLK4, DIFFCLK_2p (in), F18 CLK5, DIFFCLK_2n (in), N1 CLK3, DIFFCLK_1n (in), N2 CLK2, DIFFCLK_1p (in), N17 CLK6, DIFFCLK_3p (in), N18 CLK7, DIFFCLK_3n (in), U9 CLK15, DIFFCLK_6p (in), U10 CLK13, DIFFCLK_7p (in), V9 CLK14, DIFFCLK_6n (in), V10 CLK12, DIFFCLK_7n (in)
part J pins: G5 nSTATUS (io), H4 DCLK (io), H5 nCONFIG (in), J1 TCK (in), J2 TMS (in), J5 TDO (out), J6 TDI (in), J14 MSEL3 (in), J17 MSEL2 (in), J18 MSEL1 (in), K6 nCE (in), K13 MSEL0 (in), K14 CONF_DONE (io)
part K pins: D4 VCCIO8 (power), D6 VCCIO8 (power), D8 VCCIO8 (power), D11 VCCIO7 (power), D13 VCCIO7 (power), D15 VCCIO7 (power), F4 VCCIO1 (power), F16 VCCIO6 (power), G4 VCCIO1 (power), G7 VCCINT (power), G8 VCCINT (power), G10 VCCINT (power), G11 VCCINT (power), G12 VCCINT (power), G15 VCCIO6 (power), H7 VCCINT (power), H12 VCCINT (power), J4 VCCIO1 (power), J7 VCCINT (power), J12 VCCINT (power), J15 VCCIO6 (power), K4 VCCIO2 (power), K7 VCCINT (power), K12 VCCINT (power), K15 VCCIO5 (power), L7 VCCINT (power), L12 VCCINT (power), M4 VCCIO2 (power), M7 VCCINT (power), M8 VCCINT (power), M9 VCCINT (power), M11 VCCINT (power), M12 VCCINT (power), M15 VCCIO5 (power), N4 VCCIO2 (power), R6 VCCIO3 (power), R7 VCCIO3 (power), R9 VCCIO3 (power), R10 VCCIO4 (power), R12 VCCIO4 (power), R14 VCCIO4 (power), R15 VCCIO5 (power)
part L pins: C4 GND (power), C6 GND (power), C8 GND (power), C11 GND (power), C13 GND (power), C15 GND (power), E3 GND (power), E16 GND (power), G3 GND (power), G9 GND (power), G16 GND (power), H8 GND (power), H9 GND (power), H10 GND (power), H11 GND (power), J3 GND (power), J8 GND (power), J9 GND (power), J10 GND (power), J11 GND (power), J16 GND (power), K3 GND (power), K8 GND (power), K9 GND (power), K10 GND (power), K11 GND (power), K16 GND (power), L8 GND (power), L9 GND (power), L10 GND (power), L11 GND (power), M10 GND (power), M16 GND (power), N3 GND (power), P3 GND (power), P16 GND (power), T5 GND (power), T7 GND (power), T9 GND (power), T10 GND (power), T12 GND (power), T15 GND (power)
part M pins: E4 VCCA3 (power), E5 GNDA3 (power), E15 VCCD_PLL2 (power), F5 VCCD_PLL3 (power), F14 VCCA2 (power), F15 GNDA2 (power), N5 VCCA1 (power), N14 VCCA4 (power), P4 VCCD_PLL1 (power), P5 GNDA1 (power), P14 GNDA4 (power), P15 VCCD_PLL4 (power)
part A text: BANK 1
part B text: BANK 2
part C text: BANK 3
part D text: BANK 4
part E text: BANK 5
part F text: BANK 6
part G text: BANK 7
part H text: BANK 8

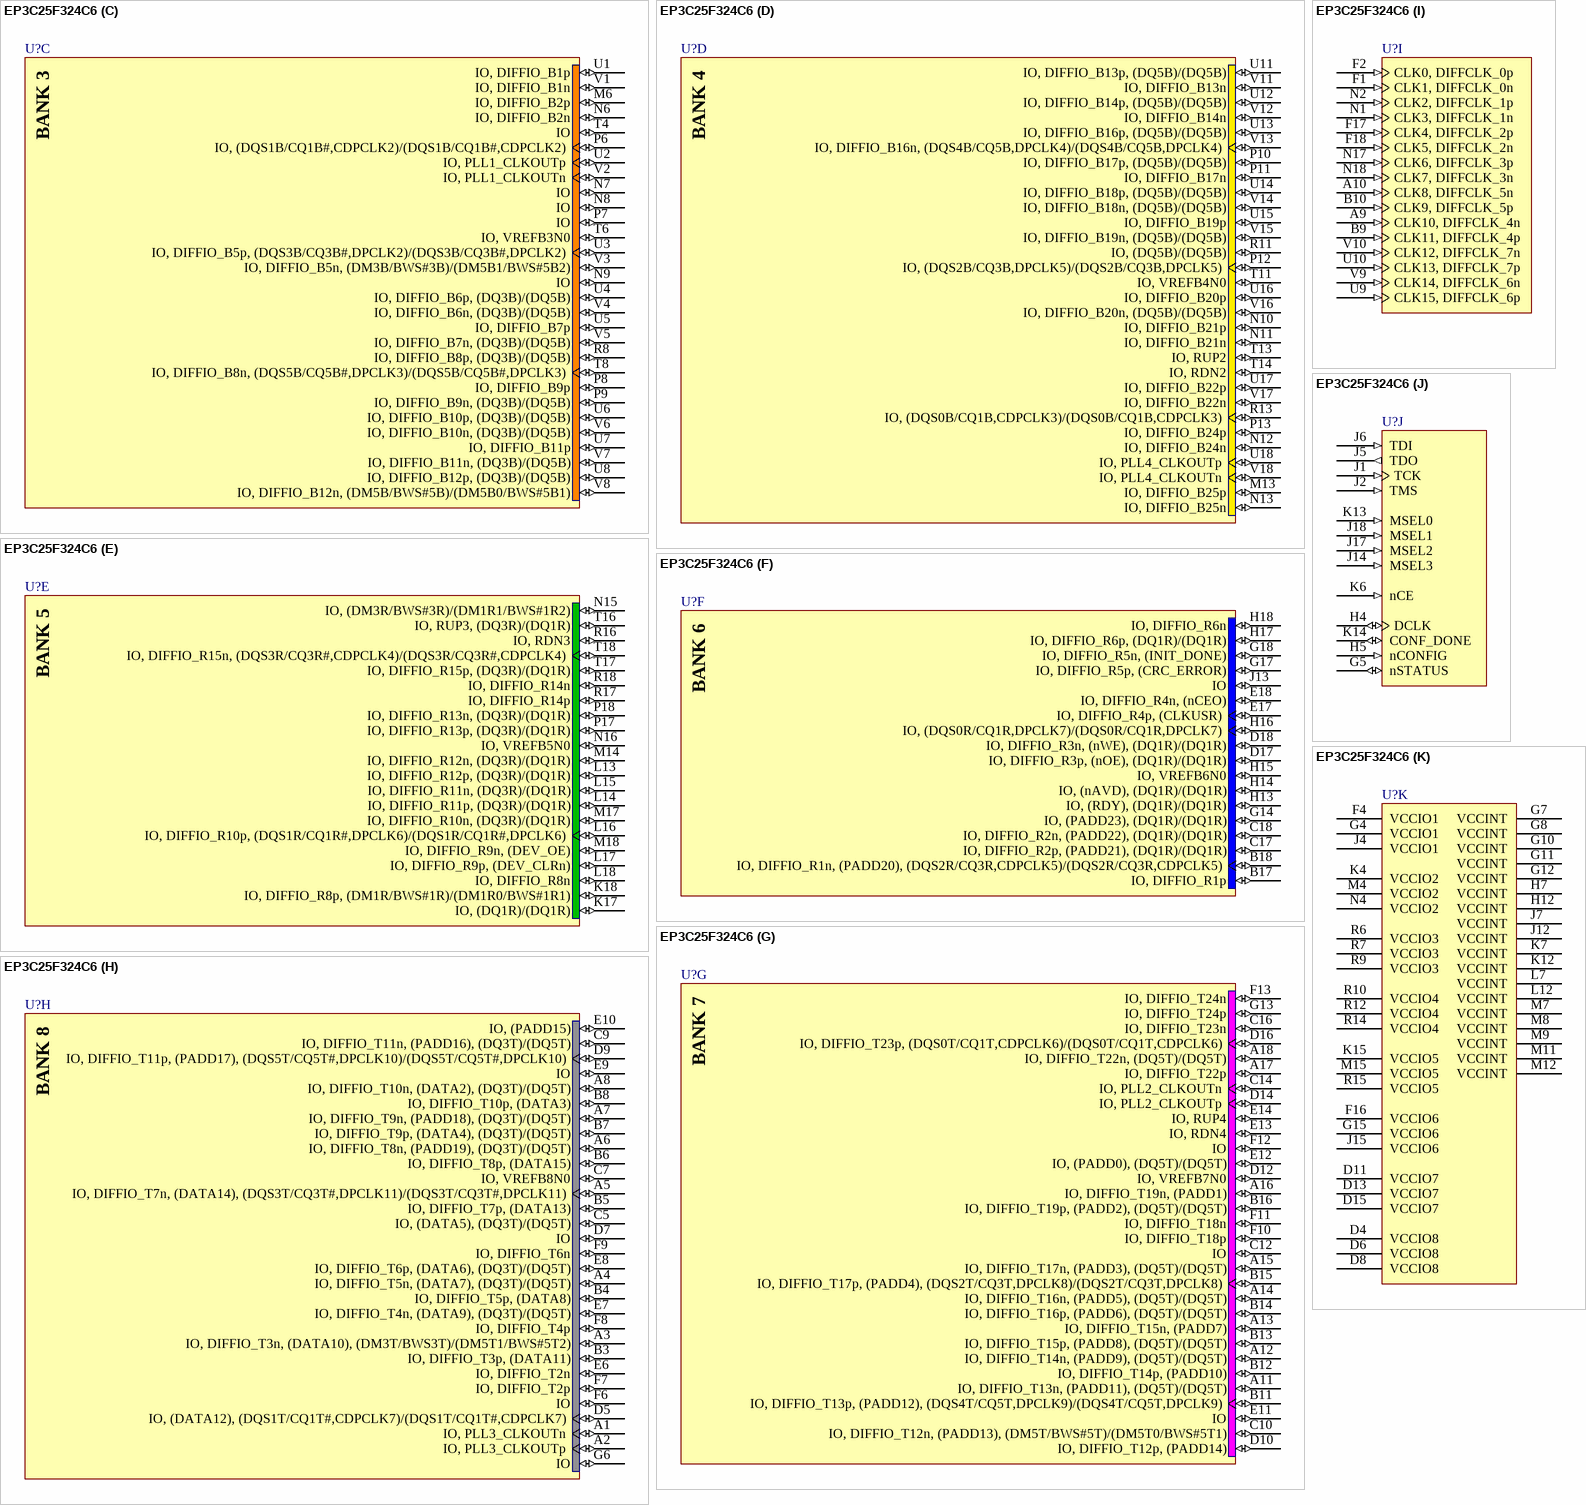
[diagram p141: symbol EP3C25F324C6]

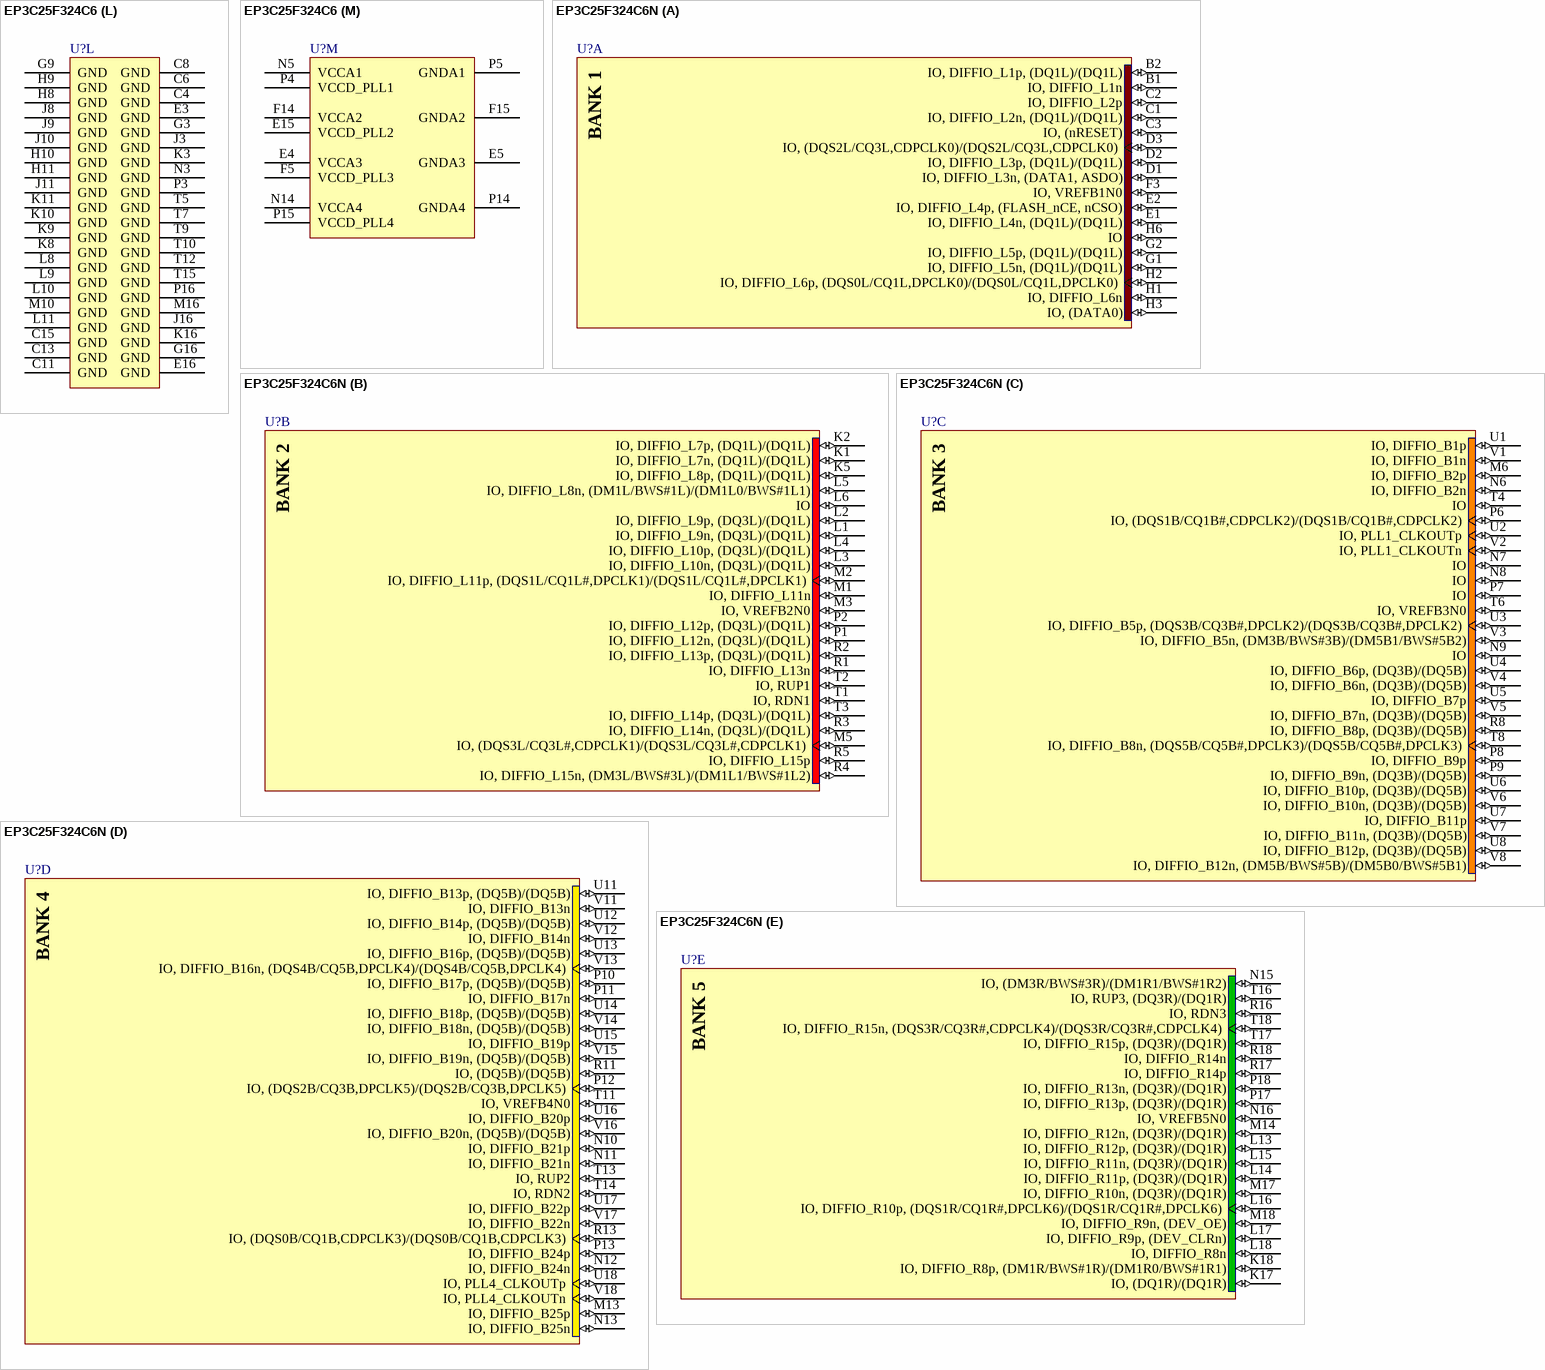
[diagram p142: symbols EP3C25F324C6 to EP3C25F324C6N]

## EP3C25F324C6
designator U?
Cyclone III Family FPGA, 215 I/O Pins, 4 PLLs, 324-Pin FBGA, Speed Grade 6, Commercial Grade; Published: 26-Feb-2007; DatasheetVersion: ver2.0, May-2008; PackageVersion: ver15.1, May-2008; PackageReference: FBGA324; Publisher: Altium Limited; PackageDescription: 324-Ball FineLine Ball Grid Array (FBGA324) - Wire Bond; Code_JEDEC: MS-034-AAG-1; Code_IPC: BGA100P18X18-324; ComponentLink1Description: Manufacturer Link; ComponentLink1URL: http://www.altera.com/; ComponentLink2Description: Handbook (7.86MB); ComponentLink2URL: http://www.altera.com/literature/hb/cyc3/cyclone3_handbook.pdf; ComponentLink3Description: Packaging Specification; ComponentLink3URL: http://www.altera.com/literature/ds/dspkg.pdf
footprint FBGA324 (BGA, 324-Leads, Body 19x19mm, Pitch 1mm)
3D model EP3C25-FBGA324 (324-Ball FineLine Ball Grid Array (FBGA324) - Wire Bond)
signal-integrity model EP3C25_F324 (Cyclone III)
part A pins: B1 IO, DIFFIO_L1n (io), B2 IO, DIFFIO_L1p, (DQ1L)/(DQ1L) (io), C1 IO, DIFFIO_L2n, (DQ1L)/(DQ1L) (io), C2 IO, DIFFIO_L2p (io), C3 IO, (nRESET) (io), D1 IO, DIFFIO_L3n, (DATA1, ASDO) (io), D2 IO, DIFFIO_L3p, (DQ1L)/(DQ1L) (io), D3 IO, (DQS2L/CQ3L,CDPCLK0)/(DQS2L/CQ3L,CDPCLK0) (io), E1 IO, DIFFIO_L4n, (DQ1L)/(DQ1L) (io), E2 IO, DIFFIO_L4p, (FLASH_nCE, nCSO) (io), F3 IO, VREFB1N0 (io), G1 IO, DIFFIO_L5n, (DQ1L)/(DQ1L) (io), G2 IO, DIFFIO_L5p, (DQ1L)/(DQ1L) (io), H1 IO, DIFFIO_L6n (io), H2 IO, DIFFIO_L6p, (DQS0L/CQ1L,DPCLK0)/(DQS0L/CQ1L,DPCLK0) (io), H3 IO, (DATA0) (io), H6 IO (io)
part B pins: K1 IO, DIFFIO_L7n, (DQ1L)/(DQ1L) (io), K2 IO, DIFFIO_L7p, (DQ1L)/(DQ1L) (io), K5 IO, DIFFIO_L8p, (DQ1L)/(DQ1L) (io), L1 IO, DIFFIO_L9n, (DQ3L)/(DQ1L) (io), L2 IO, DIFFIO_L9p, (DQ3L)/(DQ1L) (io), L3 IO, DIFFIO_L10n, (DQ3L)/(DQ1L) (io), L4 IO, DIFFIO_L10p, (DQ3L)/(DQ1L) (io), L5 IO, DIFFIO_L8n, (DM1L/BWS#1L)/(DM1L0/BWS#1L1) (io), L6 IO (io), M1 IO, DIFFIO_L11n (io), M2 IO, DIFFIO_L11p, (DQS1L/CQ1L#,DPCLK1)/(DQS1L/CQ1L#,DPCLK1) (io), M3 IO, VREFB2N0 (io), M5 IO, (DQS3L/CQ3L#,CDPCLK1)/(DQS3L/CQ3L#,CDPCLK1) (io), P1 IO, DIFFIO_L12n, (DQ3L)/(DQ1L) (io), P2 IO, DIFFIO_L12p, (DQ3L)/(DQ1L) (io), R1 IO, DIFFIO_L13n (io), R2 IO, DIFFIO_L13p, (DQ3L)/(DQ1L) (io), R3 IO, DIFFIO_L14n, (DQ3L)/(DQ1L) (io), R4 IO, DIFFIO_L15n, (DM3L/BWS#3L)/(DM1L1/BWS#1L2) (io), R5 IO, DIFFIO_L15p (io), T1 IO, RDN1 (io), T2 IO, RUP1 (io), T3 IO, DIFFIO_L14p, (DQ3L)/(DQ1L) (io)
part C pins: M6 IO, DIFFIO_B2p (io), N6 IO, DIFFIO_B2n (io), N7 IO (io), N8 IO (io), N9 IO (io), P6 IO, (DQS1B/CQ1B#,CDPCLK2)/(DQS1B/CQ1B#,CDPCLK2) (io), P7 IO (io), P8 IO, DIFFIO_B9p (io), P9 IO, DIFFIO_B9n, (DQ3B)/(DQ5B) (io), R8 IO, DIFFIO_B8p, (DQ3B)/(DQ5B) (io), T4 IO (io), T6 IO, VREFB3N0 (io), T8 IO, DIFFIO_B8n, (DQS5B/CQ5B#,DPCLK3)/(DQS5B/CQ5B#,DPCLK3) (io), U1 IO, DIFFIO_B1p (io), U2 IO, PLL1_CLKOUTp (io), U3 IO, DIFFIO_B5p, (DQS3B/CQ3B#,DPCLK2)/(DQS3B/CQ3B#,DPCLK2) (io), U4 IO, DIFFIO_B6p, (DQ3B)/(DQ5B) (io), U5 IO, DIFFIO_B7p (io), U6 IO, DIFFIO_B10p, (DQ3B)/(DQ5B) (io), U7 IO, DIFFIO_B11p (io), U8 IO, DIFFIO_B12p, (DQ3B)/(DQ5B) (io), V1 IO, DIFFIO_B1n (io), V2 IO, PLL1_CLKOUTn (io), V3 IO, DIFFIO_B5n, (DM3B/BWS#3B)/(DM5B1/BWS#5B2) (io), V4 IO, DIFFIO_B6n, (DQ3B)/(DQ5B) (io), V5 IO, DIFFIO_B7n, (DQ3B)/(DQ5B) (io), V6 IO, DIFFIO_B10n, (DQ3B)/(DQ5B) (io), V7 IO, DIFFIO_B11n, (DQ3B)/(DQ5B) (io), V8 IO, DIFFIO_B12n, (DM5B/BWS#5B)/(DM5B0/BWS#5B1) (io)
part D pins: M13 IO, DIFFIO_B25p (io), N10 IO, DIFFIO_B21p (io), N11 IO, DIFFIO_B21n (io), N12 IO, DIFFIO_B24n (io), N13 IO, DIFFIO_B25n (io), P10 IO, DIFFIO_B17p, (DQ5B)/(DQ5B) (io), P11 IO, DIFFIO_B17n (io), P12 IO, (DQS2B/CQ3B,DPCLK5)/(DQS2B/CQ3B,DPCLK5) (io), P13 IO, DIFFIO_B24p (io), R11 IO, (DQ5B)/(DQ5B) (io), R13 IO, (DQS0B/CQ1B,CDPCLK3)/(DQS0B/CQ1B,CDPCLK3) (io), T11 IO, VREFB4N0 (io), T13 IO, RUP2 (io), T14 IO, RDN2 (io), U11 IO, DIFFIO_B13p, (DQ5B)/(DQ5B) (io), U12 IO, DIFFIO_B14p, (DQ5B)/(DQ5B) (io), U13 IO, DIFFIO_B16p, (DQ5B)/(DQ5B) (io), U14 IO, DIFFIO_B18p, (DQ5B)/(DQ5B) (io), U15 IO, DIFFIO_B19p (io), U16 IO, DIFFIO_B20p (io), U17 IO, DIFFIO_B22p (io), U18 IO, PLL4_CLKOUTp (io), V11 IO, DIFFIO_B13n (io), V12 IO, DIFFIO_B14n (io), V13 IO, DIFFIO_B16n, (DQS4B/CQ5B,DPCLK4)/(DQS4B/CQ5B,DPCLK4) (io), V14 IO, DIFFIO_B18n, (DQ5B)/(DQ5B) (io), V15 IO, DIFFIO_B19n, (DQ5B)/(DQ5B) (io), V16 IO, DIFFIO_B20n, (DQ5B)/(DQ5B) (io), V17 IO, DIFFIO_B22n (io), V18 IO, PLL4_CLKOUTn (io)
part E pins: K17 IO, (DQ1R)/(DQ1R) (io), K18 IO, DIFFIO_R8p, (DM1R/BWS#1R)/(DM1R0/BWS#1R1) (io), L13 IO, DIFFIO_R12p, (DQ3R)/(DQ1R) (io), L14 IO, DIFFIO_R11p, (DQ3R)/(DQ1R) (io), L15 IO, DIFFIO_R11n, (DQ3R)/(DQ1R) (io), L16 IO, DIFFIO_R10p, (DQS1R/CQ1R#,DPCLK6)/(DQS1R/CQ1R#,DPCLK6) (io), L17 IO, DIFFIO_R9p, (DEV_CLRn) (io), L18 IO, DIFFIO_R8n (io), M14 IO, DIFFIO_R12n, (DQ3R)/(DQ1R) (io), M17 IO, DIFFIO_R10n, (DQ3R)/(DQ1R) (io), M18 IO, DIFFIO_R9n, (DEV_OE) (io), N15 IO, (DM3R/BWS#3R)/(DM1R1/BWS#1R2) (io), N16 IO, VREFB5N0 (io), P17 IO, DIFFIO_R13p, (DQ3R)/(DQ1R) (io), P18 IO, DIFFIO_R13n, (DQ3R)/(DQ1R) (io), R16 IO, RDN3 (io), R17 IO, DIFFIO_R14p (io), R18 IO, DIFFIO_R14n (io), T16 IO, RUP3, (DQ3R)/(DQ1R) (io), T17 IO, DIFFIO_R15p, (DQ3R)/(DQ1R) (io), T18 IO, DIFFIO_R15n, (DQS3R/CQ3R#,CDPCLK4)/(DQS3R/CQ3R#,CDPCLK4) (io)
part F pins: B17 IO, DIFFIO_R1p (io), B18 IO, DIFFIO_R1n, (PADD20), (DQS2R/CQ3R,CDPCLK5)/(DQS2R/CQ3R,CDPCLK5) (io), C17 IO, DIFFIO_R2p, (PADD21), (DQ1R)/(DQ1R) (io), C18 IO, DIFFIO_R2n, (PADD22), (DQ1R)/(DQ1R) (io), D17 IO, DIFFIO_R3p, (nOE), (DQ1R)/(DQ1R) (io), D18 IO, DIFFIO_R3n, (nWE), (DQ1R)/(DQ1R) (io), E17 IO, DIFFIO_R4p, (CLKUSR) (io), E18 IO, DIFFIO_R4n, (nCEO) (io), G14 IO, (PADD23), (DQ1R)/(DQ1R) (io), G17 IO, DIFFIO_R5p, (CRC_ERROR) (io), G18 IO, DIFFIO_R5n, (INIT_DONE) (io), H13 IO, (RDY), (DQ1R)/(DQ1R) (io), H14 IO, (nAVD), (DQ1R)/(DQ1R) (io), H15 IO, VREFB6N0 (io), H16 IO, (DQS0R/CQ1R,DPCLK7)/(DQS0R/CQ1R,DPCLK7) (io), H17 IO, DIFFIO_R6p, (DQ1R)/(DQ1R) (io), H18 IO, DIFFIO_R6n (io), J13 IO (io)
part G pins: A11 IO, DIFFIO_T13n, (PADD11), (DQ5T)/(DQ5T) (io), A12 IO, DIFFIO_T14n, (PADD9), (DQ5T)/(DQ5T) (io), A13 IO, DIFFIO_T15n, (PADD7) (io), A14 IO, DIFFIO_T16n, (PADD5), (DQ5T)/(DQ5T) (io), A15 IO, DIFFIO_T17n, (PADD3), (DQ5T)/(DQ5T) (io), A16 IO, DIFFIO_T19n, (PADD1) (io), A17 IO, DIFFIO_T22p (io), A18 IO, DIFFIO_T22n, (DQ5T)/(DQ5T) (io), B11 IO, DIFFIO_T13p, (PADD12), (DQS4T/CQ5T,DPCLK9)/(DQS4T/CQ5T,DPCLK9) (io), B12 IO, DIFFIO_T14p, (PADD10) (io), B13 IO, DIFFIO_T15p, (PADD8), (DQ5T)/(DQ5T) (io), B14 IO, DIFFIO_T16p, (PADD6), (DQ5T)/(DQ5T) (io), B15 IO, DIFFIO_T17p, (PADD4), (DQS2T/CQ3T,DPCLK8)/(DQS2T/CQ3T,DPCLK8) (io), B16 IO, DIFFIO_T19p, (PADD2), (DQ5T)/(DQ5T) (io), C10 IO, DIFFIO_T12n, (PADD13), (DM5T/BWS#5T)/(DM5T0/BWS#5T1) (io), C12 IO (io), C14 IO, PLL2_CLKOUTn (io), C16 IO, DIFFIO_T23n (io), D10 IO, DIFFIO_T12p, (PADD14) (io), D12 IO, VREFB7N0 (io), D14 IO, PLL2_CLKOUTp (io), D16 IO, DIFFIO_T23p, (DQS0T/CQ1T,CDPCLK6)/(DQS0T/CQ1T,CDPCLK6) (io), E11 IO (io), E12 IO, (PADD0), (DQ5T)/(DQ5T) (io), E13 IO, RDN4 (io), E14 IO, RUP4 (io), F10 IO, DIFFIO_T18p (io), F11 IO, DIFFIO_T18n (io), F12 IO (io), F13 IO, DIFFIO_T24n (io), G13 IO, DIFFIO_T24p (io)
part H pins: A1 IO, PLL3_CLKOUTn (io), A2 IO, PLL3_CLKOUTp (io), A3 IO, DIFFIO_T3n, (DATA10), (DM3T/BWS3T)/(DM5T1/BWS#5T2) (io), A4 IO, DIFFIO_T5n, (DATA7), (DQ3T)/(DQ5T) (io), A5 IO, DIFFIO_T7n, (DATA14), (DQS3T/CQ3T#,DPCLK11)/(DQS3T/CQ3T#,DPCLK11) (io), A6 IO, DIFFIO_T8n, (PADD19), (DQ3T)/(DQ5T) (io), A7 IO, DIFFIO_T9n, (PADD18), (DQ3T)/(DQ5T) (io), A8 IO, DIFFIO_T10n, (DATA2), (DQ3T)/(DQ5T) (io), B3 IO, DIFFIO_T3p, (DATA11) (io), B4 IO, DIFFIO_T5p, (DATA8) (io), B5 IO, DIFFIO_T7p, (DATA13) (io), B6 IO, DIFFIO_T8p, (DATA15) (io), B7 IO, DIFFIO_T9p, (DATA4), (DQ3T)/(DQ5T) (io), B8 IO, DIFFIO_T10p, (DATA3) (io), C5 IO, (DATA5), (DQ3T)/(DQ5T) (io), C7 IO, VREFB8N0 (io), C9 IO, DIFFIO_T11n, (PADD16), (DQ3T)/(DQ5T) (io), D5 IO, (DATA12), (DQS1T/CQ1T#,CDPCLK7)/(DQS1T/CQ1T#,CDPCLK7) (io), D7 IO (io), D9 IO, DIFFIO_T11p, (PADD17), (DQS5T/CQ5T#,DPCLK10)/(DQS5T/CQ5T#,DPCLK10) (io), E6 IO, DIFFIO_T2n (io), E7 IO, DIFFIO_T4n, (DATA9), (DQ3T)/(DQ5T) (io), E8 IO, DIFFIO_T6p, (DATA6), (DQ3T)/(DQ5T) (io), E9 IO (io), E10 IO, (PADD15) (io), F6 IO (io), F7 IO, DIFFIO_T2p (io), F8 IO, DIFFIO_T4p (io), F9 IO, DIFFIO_T6n (io), G6 IO (io)
part I pins: A9 CLK10, DIFFCLK_4n (in), A10 CLK8, DIFFCLK_5n (in), B9 CLK11, DIFFCLK_4p (in), B10 CLK9, DIFFCLK_5p (in), F1 CLK1, DIFFCLK_0n (in), F2 CLK0, DIFFCLK_0p (in), F17 CLK4, DIFFCLK_2p (in), F18 CLK5, DIFFCLK_2n (in), N1 CLK3, DIFFCLK_1n (in), N2 CLK2, DIFFCLK_1p (in), N17 CLK6, DIFFCLK_3p (in), N18 CLK7, DIFFCLK_3n (in), U9 CLK15, DIFFCLK_6p (in), U10 CLK13, DIFFCLK_7p (in), V9 CLK14, DIFFCLK_6n (in), V10 CLK12, DIFFCLK_7n (in)
part J pins: G5 nSTATUS (io), H4 DCLK (io), H5 nCONFIG (in), J1 TCK (in), J2 TMS (in), J5 TDO (out), J6 TDI (in), J14 MSEL3 (in), J17 MSEL2 (in), J18 MSEL1 (in), K6 nCE (in), K13 MSEL0 (in), K14 CONF_DONE (io)
part K pins: D4 VCCIO8 (power), D6 VCCIO8 (power), D8 VCCIO8 (power), D11 VCCIO7 (power), D13 VCCIO7 (power), D15 VCCIO7 (power), F4 VCCIO1 (power), F16 VCCIO6 (power), G4 VCCIO1 (power), G7 VCCINT (power), G8 VCCINT (power), G10 VCCINT (power), G11 VCCINT (power), G12 VCCINT (power), G15 VCCIO6 (power), H7 VCCINT (power), H12 VCCINT (power), J4 VCCIO1 (power), J7 VCCINT (power), J12 VCCINT (power), J15 VCCIO6 (power), K4 VCCIO2 (power), K7 VCCINT (power), K12 VCCINT (power), K15 VCCIO5 (power), L7 VCCINT (power), L12 VCCINT (power), M4 VCCIO2 (power), M7 VCCINT (power), M8 VCCINT (power), M9 VCCINT (power), M11 VCCINT (power), M12 VCCINT (power), M15 VCCIO5 (power), N4 VCCIO2 (power), R6 VCCIO3 (power), R7 VCCIO3 (power), R9 VCCIO3 (power), R10 VCCIO4 (power), R12 VCCIO4 (power), R14 VCCIO4 (power), R15 VCCIO5 (power)
part L pins: C4 GND (power), C6 GND (power), C8 GND (power), C11 GND (power), C13 GND (power), C15 GND (power), E3 GND (power), E16 GND (power), G3 GND (power), G9 GND (power), G16 GND (power), H8 GND (power), H9 GND (power), H10 GND (power), H11 GND (power), J3 GND (power), J8 GND (power), J9 GND (power), J10 GND (power), J11 GND (power), J16 GND (power), K3 GND (power), K8 GND (power), K9 GND (power), K10 GND (power), K11 GND (power), K16 GND (power), L8 GND (power), L9 GND (power), L10 GND (power), L11 GND (power), M10 GND (power), M16 GND (power), N3 GND (power), P3 GND (power), P16 GND (power), T5 GND (power), T7 GND (power), T9 GND (power), T10 GND (power), T12 GND (power), T15 GND (power)
part M pins: E4 VCCA3 (power), E5 GNDA3 (power), E15 VCCD_PLL2 (power), F5 VCCD_PLL3 (power), F14 VCCA2 (power), F15 GNDA2 (power), N5 VCCA1 (power), N14 VCCA4 (power), P4 VCCD_PLL1 (power), P5 GNDA1 (power), P14 GNDA4 (power), P15 VCCD_PLL4 (power)
part A text: BANK 1
part B text: BANK 2
part C text: BANK 3
part D text: BANK 4
part E text: BANK 5
part F text: BANK 6
part G text: BANK 7
part H text: BANK 8

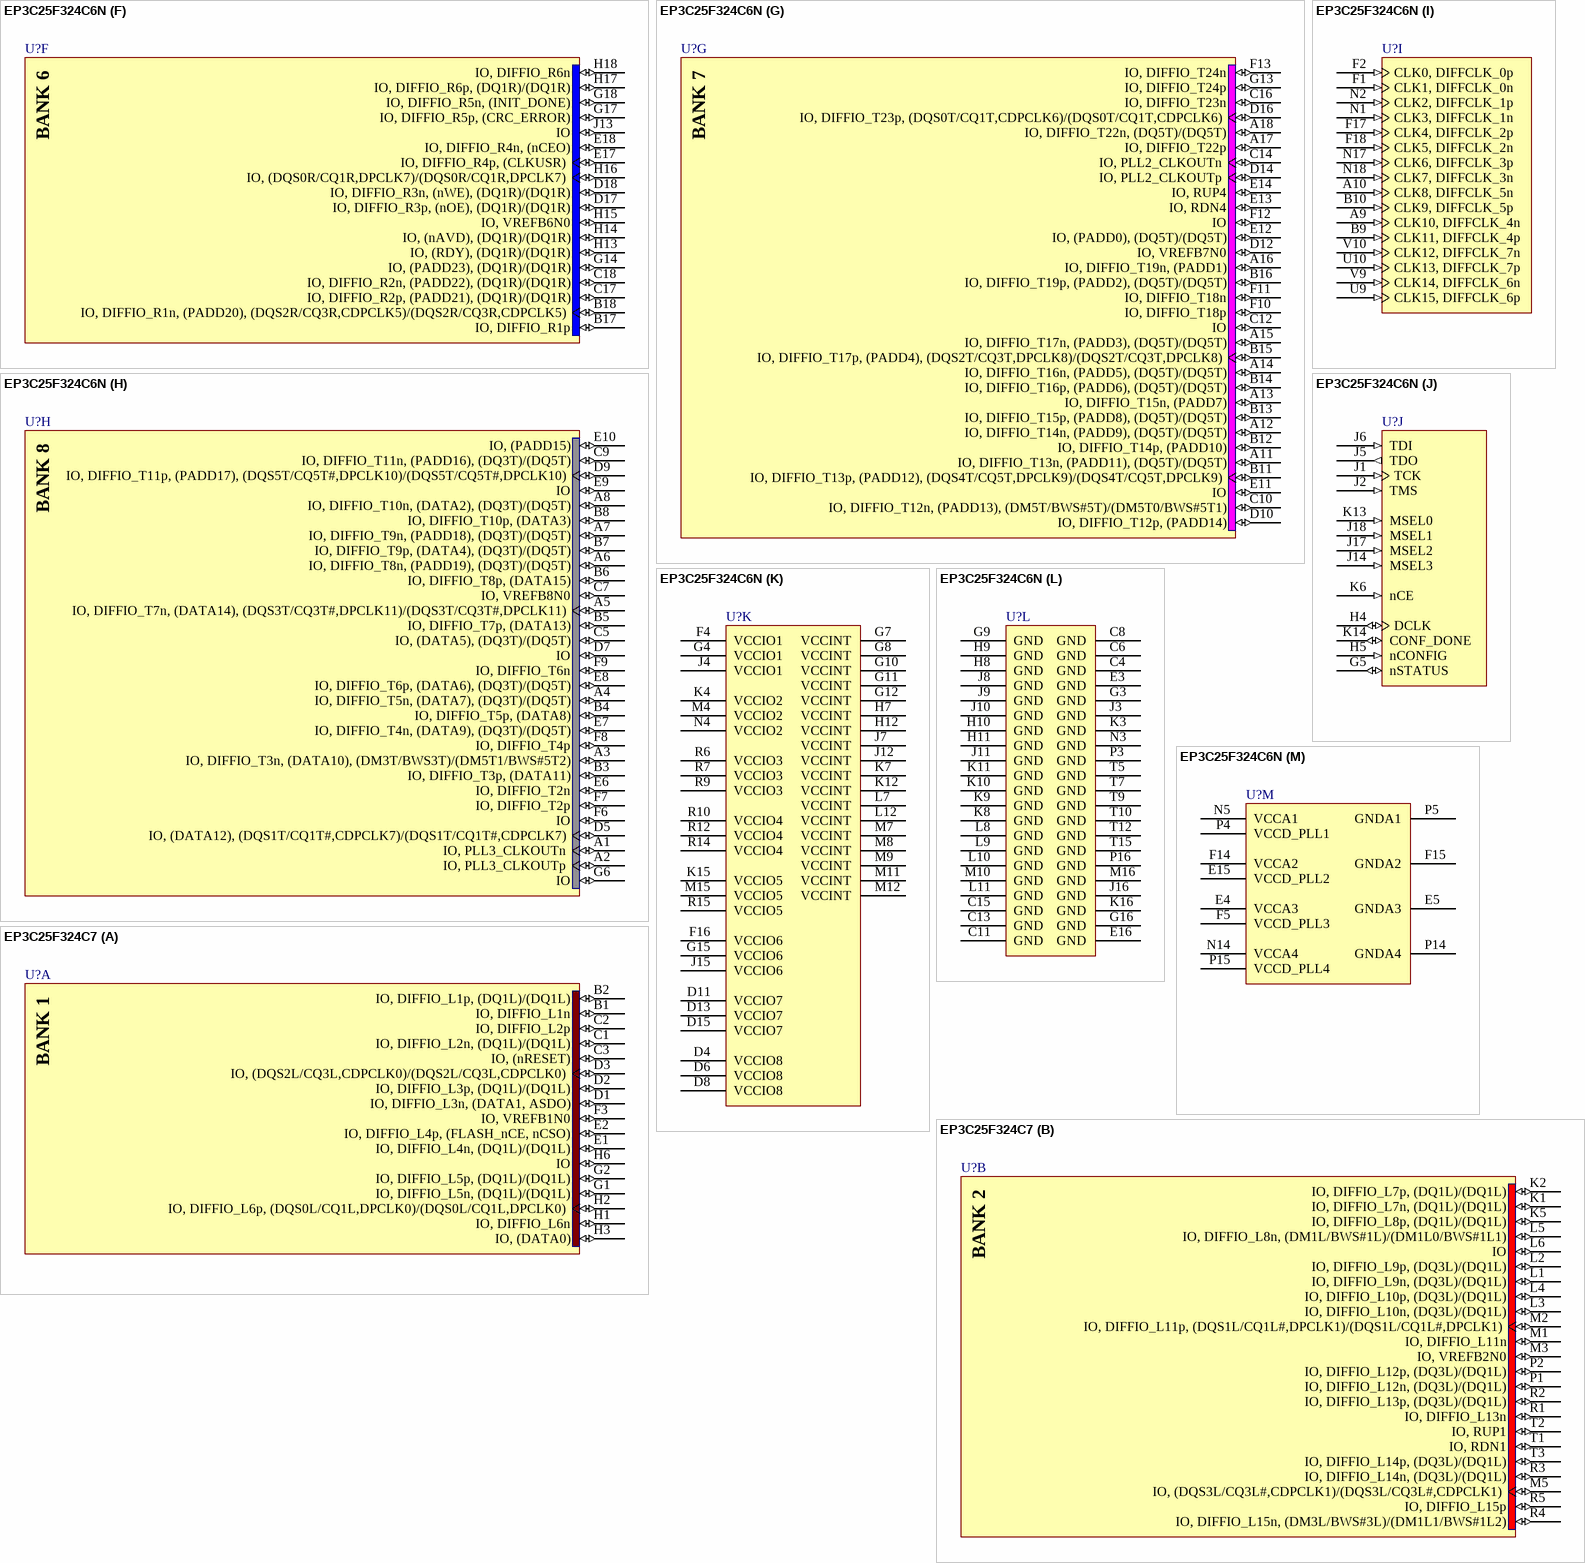
[diagram p143: symbols EP3C25F324C6N to EP3C25F324C7]

## EP3C25F324C6N
designator U?
Cyclone III Family FPGA, 215 I/O Pins, 4 PLLs, 324-Pin FBGA, Speed Grade 6, Commercial Grade, Pb-Free; Published: 26-Feb-2007; DatasheetVersion: ver2.0, May-2008; PackageVersion: ver15.1, May-2008; PackageReference: FBGA324; Publisher: Altium Limited; PackageDescription: 324-Ball FineLine Ball Grid Array (FBGA324) - Wire Bond; Code_JEDEC: MS-034-AAG-1; Code_IPC: BGA100P18X18-324; ComponentLink1Description: Manufacturer Link; ComponentLink1URL: http://www.altera.com/; ComponentLink2Description: Handbook (7.86MB); ComponentLink2URL: http://www.altera.com/literature/hb/cyc3/cyclone3_handbook.pdf; ComponentLink3Description: Packaging Specification; ComponentLink3URL: http://www.altera.com/literature/ds/dspkg.pdf
footprint FBGA324 (BGA, 324-Leads, Body 19x19mm, Pitch 1mm)
3D model EP3C25-FBGA324 (324-Ball FineLine Ball Grid Array (FBGA324) - Wire Bond)
signal-integrity model EP3C25_F324 (Cyclone III)
part A pins: B1 IO, DIFFIO_L1n (io), B2 IO, DIFFIO_L1p, (DQ1L)/(DQ1L) (io), C1 IO, DIFFIO_L2n, (DQ1L)/(DQ1L) (io), C2 IO, DIFFIO_L2p (io), C3 IO, (nRESET) (io), D1 IO, DIFFIO_L3n, (DATA1, ASDO) (io), D2 IO, DIFFIO_L3p, (DQ1L)/(DQ1L) (io), D3 IO, (DQS2L/CQ3L,CDPCLK0)/(DQS2L/CQ3L,CDPCLK0) (io), E1 IO, DIFFIO_L4n, (DQ1L)/(DQ1L) (io), E2 IO, DIFFIO_L4p, (FLASH_nCE, nCSO) (io), F3 IO, VREFB1N0 (io), G1 IO, DIFFIO_L5n, (DQ1L)/(DQ1L) (io), G2 IO, DIFFIO_L5p, (DQ1L)/(DQ1L) (io), H1 IO, DIFFIO_L6n (io), H2 IO, DIFFIO_L6p, (DQS0L/CQ1L,DPCLK0)/(DQS0L/CQ1L,DPCLK0) (io), H3 IO, (DATA0) (io), H6 IO (io)
part B pins: K1 IO, DIFFIO_L7n, (DQ1L)/(DQ1L) (io), K2 IO, DIFFIO_L7p, (DQ1L)/(DQ1L) (io), K5 IO, DIFFIO_L8p, (DQ1L)/(DQ1L) (io), L1 IO, DIFFIO_L9n, (DQ3L)/(DQ1L) (io), L2 IO, DIFFIO_L9p, (DQ3L)/(DQ1L) (io), L3 IO, DIFFIO_L10n, (DQ3L)/(DQ1L) (io), L4 IO, DIFFIO_L10p, (DQ3L)/(DQ1L) (io), L5 IO, DIFFIO_L8n, (DM1L/BWS#1L)/(DM1L0/BWS#1L1) (io), L6 IO (io), M1 IO, DIFFIO_L11n (io), M2 IO, DIFFIO_L11p, (DQS1L/CQ1L#,DPCLK1)/(DQS1L/CQ1L#,DPCLK1) (io), M3 IO, VREFB2N0 (io), M5 IO, (DQS3L/CQ3L#,CDPCLK1)/(DQS3L/CQ3L#,CDPCLK1) (io), P1 IO, DIFFIO_L12n, (DQ3L)/(DQ1L) (io), P2 IO, DIFFIO_L12p, (DQ3L)/(DQ1L) (io), R1 IO, DIFFIO_L13n (io), R2 IO, DIFFIO_L13p, (DQ3L)/(DQ1L) (io), R3 IO, DIFFIO_L14n, (DQ3L)/(DQ1L) (io), R4 IO, DIFFIO_L15n, (DM3L/BWS#3L)/(DM1L1/BWS#1L2) (io), R5 IO, DIFFIO_L15p (io), T1 IO, RDN1 (io), T2 IO, RUP1 (io), T3 IO, DIFFIO_L14p, (DQ3L)/(DQ1L) (io)
part C pins: M6 IO, DIFFIO_B2p (io), N6 IO, DIFFIO_B2n (io), N7 IO (io), N8 IO (io), N9 IO (io), P6 IO, (DQS1B/CQ1B#,CDPCLK2)/(DQS1B/CQ1B#,CDPCLK2) (io), P7 IO (io), P8 IO, DIFFIO_B9p (io), P9 IO, DIFFIO_B9n, (DQ3B)/(DQ5B) (io), R8 IO, DIFFIO_B8p, (DQ3B)/(DQ5B) (io), T4 IO (io), T6 IO, VREFB3N0 (io), T8 IO, DIFFIO_B8n, (DQS5B/CQ5B#,DPCLK3)/(DQS5B/CQ5B#,DPCLK3) (io), U1 IO, DIFFIO_B1p (io), U2 IO, PLL1_CLKOUTp (io), U3 IO, DIFFIO_B5p, (DQS3B/CQ3B#,DPCLK2)/(DQS3B/CQ3B#,DPCLK2) (io), U4 IO, DIFFIO_B6p, (DQ3B)/(DQ5B) (io), U5 IO, DIFFIO_B7p (io), U6 IO, DIFFIO_B10p, (DQ3B)/(DQ5B) (io), U7 IO, DIFFIO_B11p (io), U8 IO, DIFFIO_B12p, (DQ3B)/(DQ5B) (io), V1 IO, DIFFIO_B1n (io), V2 IO, PLL1_CLKOUTn (io), V3 IO, DIFFIO_B5n, (DM3B/BWS#3B)/(DM5B1/BWS#5B2) (io), V4 IO, DIFFIO_B6n, (DQ3B)/(DQ5B) (io), V5 IO, DIFFIO_B7n, (DQ3B)/(DQ5B) (io), V6 IO, DIFFIO_B10n, (DQ3B)/(DQ5B) (io), V7 IO, DIFFIO_B11n, (DQ3B)/(DQ5B) (io), V8 IO, DIFFIO_B12n, (DM5B/BWS#5B)/(DM5B0/BWS#5B1) (io)
part D pins: M13 IO, DIFFIO_B25p (io), N10 IO, DIFFIO_B21p (io), N11 IO, DIFFIO_B21n (io), N12 IO, DIFFIO_B24n (io), N13 IO, DIFFIO_B25n (io), P10 IO, DIFFIO_B17p, (DQ5B)/(DQ5B) (io), P11 IO, DIFFIO_B17n (io), P12 IO, (DQS2B/CQ3B,DPCLK5)/(DQS2B/CQ3B,DPCLK5) (io), P13 IO, DIFFIO_B24p (io), R11 IO, (DQ5B)/(DQ5B) (io), R13 IO, (DQS0B/CQ1B,CDPCLK3)/(DQS0B/CQ1B,CDPCLK3) (io), T11 IO, VREFB4N0 (io), T13 IO, RUP2 (io), T14 IO, RDN2 (io), U11 IO, DIFFIO_B13p, (DQ5B)/(DQ5B) (io), U12 IO, DIFFIO_B14p, (DQ5B)/(DQ5B) (io), U13 IO, DIFFIO_B16p, (DQ5B)/(DQ5B) (io), U14 IO, DIFFIO_B18p, (DQ5B)/(DQ5B) (io), U15 IO, DIFFIO_B19p (io), U16 IO, DIFFIO_B20p (io), U17 IO, DIFFIO_B22p (io), U18 IO, PLL4_CLKOUTp (io), V11 IO, DIFFIO_B13n (io), V12 IO, DIFFIO_B14n (io), V13 IO, DIFFIO_B16n, (DQS4B/CQ5B,DPCLK4)/(DQS4B/CQ5B,DPCLK4) (io), V14 IO, DIFFIO_B18n, (DQ5B)/(DQ5B) (io), V15 IO, DIFFIO_B19n, (DQ5B)/(DQ5B) (io), V16 IO, DIFFIO_B20n, (DQ5B)/(DQ5B) (io), V17 IO, DIFFIO_B22n (io), V18 IO, PLL4_CLKOUTn (io)
part E pins: K17 IO, (DQ1R)/(DQ1R) (io), K18 IO, DIFFIO_R8p, (DM1R/BWS#1R)/(DM1R0/BWS#1R1) (io), L13 IO, DIFFIO_R12p, (DQ3R)/(DQ1R) (io), L14 IO, DIFFIO_R11p, (DQ3R)/(DQ1R) (io), L15 IO, DIFFIO_R11n, (DQ3R)/(DQ1R) (io), L16 IO, DIFFIO_R10p, (DQS1R/CQ1R#,DPCLK6)/(DQS1R/CQ1R#,DPCLK6) (io), L17 IO, DIFFIO_R9p, (DEV_CLRn) (io), L18 IO, DIFFIO_R8n (io), M14 IO, DIFFIO_R12n, (DQ3R)/(DQ1R) (io), M17 IO, DIFFIO_R10n, (DQ3R)/(DQ1R) (io), M18 IO, DIFFIO_R9n, (DEV_OE) (io), N15 IO, (DM3R/BWS#3R)/(DM1R1/BWS#1R2) (io), N16 IO, VREFB5N0 (io), P17 IO, DIFFIO_R13p, (DQ3R)/(DQ1R) (io), P18 IO, DIFFIO_R13n, (DQ3R)/(DQ1R) (io), R16 IO, RDN3 (io), R17 IO, DIFFIO_R14p (io), R18 IO, DIFFIO_R14n (io), T16 IO, RUP3, (DQ3R)/(DQ1R) (io), T17 IO, DIFFIO_R15p, (DQ3R)/(DQ1R) (io), T18 IO, DIFFIO_R15n, (DQS3R/CQ3R#,CDPCLK4)/(DQS3R/CQ3R#,CDPCLK4) (io)
part F pins: B17 IO, DIFFIO_R1p (io), B18 IO, DIFFIO_R1n, (PADD20), (DQS2R/CQ3R,CDPCLK5)/(DQS2R/CQ3R,CDPCLK5) (io), C17 IO, DIFFIO_R2p, (PADD21), (DQ1R)/(DQ1R) (io), C18 IO, DIFFIO_R2n, (PADD22), (DQ1R)/(DQ1R) (io), D17 IO, DIFFIO_R3p, (nOE), (DQ1R)/(DQ1R) (io), D18 IO, DIFFIO_R3n, (nWE), (DQ1R)/(DQ1R) (io), E17 IO, DIFFIO_R4p, (CLKUSR) (io), E18 IO, DIFFIO_R4n, (nCEO) (io), G14 IO, (PADD23), (DQ1R)/(DQ1R) (io), G17 IO, DIFFIO_R5p, (CRC_ERROR) (io), G18 IO, DIFFIO_R5n, (INIT_DONE) (io), H13 IO, (RDY), (DQ1R)/(DQ1R) (io), H14 IO, (nAVD), (DQ1R)/(DQ1R) (io), H15 IO, VREFB6N0 (io), H16 IO, (DQS0R/CQ1R,DPCLK7)/(DQS0R/CQ1R,DPCLK7) (io), H17 IO, DIFFIO_R6p, (DQ1R)/(DQ1R) (io), H18 IO, DIFFIO_R6n (io), J13 IO (io)
part G pins: A11 IO, DIFFIO_T13n, (PADD11), (DQ5T)/(DQ5T) (io), A12 IO, DIFFIO_T14n, (PADD9), (DQ5T)/(DQ5T) (io), A13 IO, DIFFIO_T15n, (PADD7) (io), A14 IO, DIFFIO_T16n, (PADD5), (DQ5T)/(DQ5T) (io), A15 IO, DIFFIO_T17n, (PADD3), (DQ5T)/(DQ5T) (io), A16 IO, DIFFIO_T19n, (PADD1) (io), A17 IO, DIFFIO_T22p (io), A18 IO, DIFFIO_T22n, (DQ5T)/(DQ5T) (io), B11 IO, DIFFIO_T13p, (PADD12), (DQS4T/CQ5T,DPCLK9)/(DQS4T/CQ5T,DPCLK9) (io), B12 IO, DIFFIO_T14p, (PADD10) (io), B13 IO, DIFFIO_T15p, (PADD8), (DQ5T)/(DQ5T) (io), B14 IO, DIFFIO_T16p, (PADD6), (DQ5T)/(DQ5T) (io), B15 IO, DIFFIO_T17p, (PADD4), (DQS2T/CQ3T,DPCLK8)/(DQS2T/CQ3T,DPCLK8) (io), B16 IO, DIFFIO_T19p, (PADD2), (DQ5T)/(DQ5T) (io), C10 IO, DIFFIO_T12n, (PADD13), (DM5T/BWS#5T)/(DM5T0/BWS#5T1) (io), C12 IO (io), C14 IO, PLL2_CLKOUTn (io), C16 IO, DIFFIO_T23n (io), D10 IO, DIFFIO_T12p, (PADD14) (io), D12 IO, VREFB7N0 (io), D14 IO, PLL2_CLKOUTp (io), D16 IO, DIFFIO_T23p, (DQS0T/CQ1T,CDPCLK6)/(DQS0T/CQ1T,CDPCLK6) (io), E11 IO (io), E12 IO, (PADD0), (DQ5T)/(DQ5T) (io), E13 IO, RDN4 (io), E14 IO, RUP4 (io), F10 IO, DIFFIO_T18p (io), F11 IO, DIFFIO_T18n (io), F12 IO (io), F13 IO, DIFFIO_T24n (io), G13 IO, DIFFIO_T24p (io)
part H pins: A1 IO, PLL3_CLKOUTn (io), A2 IO, PLL3_CLKOUTp (io), A3 IO, DIFFIO_T3n, (DATA10), (DM3T/BWS3T)/(DM5T1/BWS#5T2) (io), A4 IO, DIFFIO_T5n, (DATA7), (DQ3T)/(DQ5T) (io), A5 IO, DIFFIO_T7n, (DATA14), (DQS3T/CQ3T#,DPCLK11)/(DQS3T/CQ3T#,DPCLK11) (io), A6 IO, DIFFIO_T8n, (PADD19), (DQ3T)/(DQ5T) (io), A7 IO, DIFFIO_T9n, (PADD18), (DQ3T)/(DQ5T) (io), A8 IO, DIFFIO_T10n, (DATA2), (DQ3T)/(DQ5T) (io), B3 IO, DIFFIO_T3p, (DATA11) (io), B4 IO, DIFFIO_T5p, (DATA8) (io), B5 IO, DIFFIO_T7p, (DATA13) (io), B6 IO, DIFFIO_T8p, (DATA15) (io), B7 IO, DIFFIO_T9p, (DATA4), (DQ3T)/(DQ5T) (io), B8 IO, DIFFIO_T10p, (DATA3) (io), C5 IO, (DATA5), (DQ3T)/(DQ5T) (io), C7 IO, VREFB8N0 (io), C9 IO, DIFFIO_T11n, (PADD16), (DQ3T)/(DQ5T) (io), D5 IO, (DATA12), (DQS1T/CQ1T#,CDPCLK7)/(DQS1T/CQ1T#,CDPCLK7) (io), D7 IO (io), D9 IO, DIFFIO_T11p, (PADD17), (DQS5T/CQ5T#,DPCLK10)/(DQS5T/CQ5T#,DPCLK10) (io), E6 IO, DIFFIO_T2n (io), E7 IO, DIFFIO_T4n, (DATA9), (DQ3T)/(DQ5T) (io), E8 IO, DIFFIO_T6p, (DATA6), (DQ3T)/(DQ5T) (io), E9 IO (io), E10 IO, (PADD15) (io), F6 IO (io), F7 IO, DIFFIO_T2p (io), F8 IO, DIFFIO_T4p (io), F9 IO, DIFFIO_T6n (io), G6 IO (io)
part I pins: A9 CLK10, DIFFCLK_4n (in), A10 CLK8, DIFFCLK_5n (in), B9 CLK11, DIFFCLK_4p (in), B10 CLK9, DIFFCLK_5p (in), F1 CLK1, DIFFCLK_0n (in), F2 CLK0, DIFFCLK_0p (in), F17 CLK4, DIFFCLK_2p (in), F18 CLK5, DIFFCLK_2n (in), N1 CLK3, DIFFCLK_1n (in), N2 CLK2, DIFFCLK_1p (in), N17 CLK6, DIFFCLK_3p (in), N18 CLK7, DIFFCLK_3n (in), U9 CLK15, DIFFCLK_6p (in), U10 CLK13, DIFFCLK_7p (in), V9 CLK14, DIFFCLK_6n (in), V10 CLK12, DIFFCLK_7n (in)
part J pins: G5 nSTATUS (io), H4 DCLK (io), H5 nCONFIG (in), J1 TCK (in), J2 TMS (in), J5 TDO (out), J6 TDI (in), J14 MSEL3 (in), J17 MSEL2 (in), J18 MSEL1 (in), K6 nCE (in), K13 MSEL0 (in), K14 CONF_DONE (io)
part K pins: D4 VCCIO8 (power), D6 VCCIO8 (power), D8 VCCIO8 (power), D11 VCCIO7 (power), D13 VCCIO7 (power), D15 VCCIO7 (power), F4 VCCIO1 (power), F16 VCCIO6 (power), G4 VCCIO1 (power), G7 VCCINT (power), G8 VCCINT (power), G10 VCCINT (power), G11 VCCINT (power), G12 VCCINT (power), G15 VCCIO6 (power), H7 VCCINT (power), H12 VCCINT (power), J4 VCCIO1 (power), J7 VCCINT (power), J12 VCCINT (power), J15 VCCIO6 (power), K4 VCCIO2 (power), K7 VCCINT (power), K12 VCCINT (power), K15 VCCIO5 (power), L7 VCCINT (power), L12 VCCINT (power), M4 VCCIO2 (power), M7 VCCINT (power), M8 VCCINT (power), M9 VCCINT (power), M11 VCCINT (power), M12 VCCINT (power), M15 VCCIO5 (power), N4 VCCIO2 (power), R6 VCCIO3 (power), R7 VCCIO3 (power), R9 VCCIO3 (power), R10 VCCIO4 (power), R12 VCCIO4 (power), R14 VCCIO4 (power), R15 VCCIO5 (power)
part L pins: C4 GND (power), C6 GND (power), C8 GND (power), C11 GND (power), C13 GND (power), C15 GND (power), E3 GND (power), E16 GND (power), G3 GND (power), G9 GND (power), G16 GND (power), H8 GND (power), H9 GND (power), H10 GND (power), H11 GND (power), J3 GND (power), J8 GND (power), J9 GND (power), J10 GND (power), J11 GND (power), J16 GND (power), K3 GND (power), K8 GND (power), K9 GND (power), K10 GND (power), K11 GND (power), K16 GND (power), L8 GND (power), L9 GND (power), L10 GND (power), L11 GND (power), M10 GND (power), M16 GND (power), N3 GND (power), P3 GND (power), P16 GND (power), T5 GND (power), T7 GND (power), T9 GND (power), T10 GND (power), T12 GND (power), T15 GND (power)
part M pins: E4 VCCA3 (power), E5 GNDA3 (power), E15 VCCD_PLL2 (power), F5 VCCD_PLL3 (power), F14 VCCA2 (power), F15 GNDA2 (power), N5 VCCA1 (power), N14 VCCA4 (power), P4 VCCD_PLL1 (power), P5 GNDA1 (power), P14 GNDA4 (power), P15 VCCD_PLL4 (power)
part A text: BANK 1
part B text: BANK 2
part C text: BANK 3
part D text: BANK 4
part E text: BANK 5
part F text: BANK 6
part G text: BANK 7
part H text: BANK 8

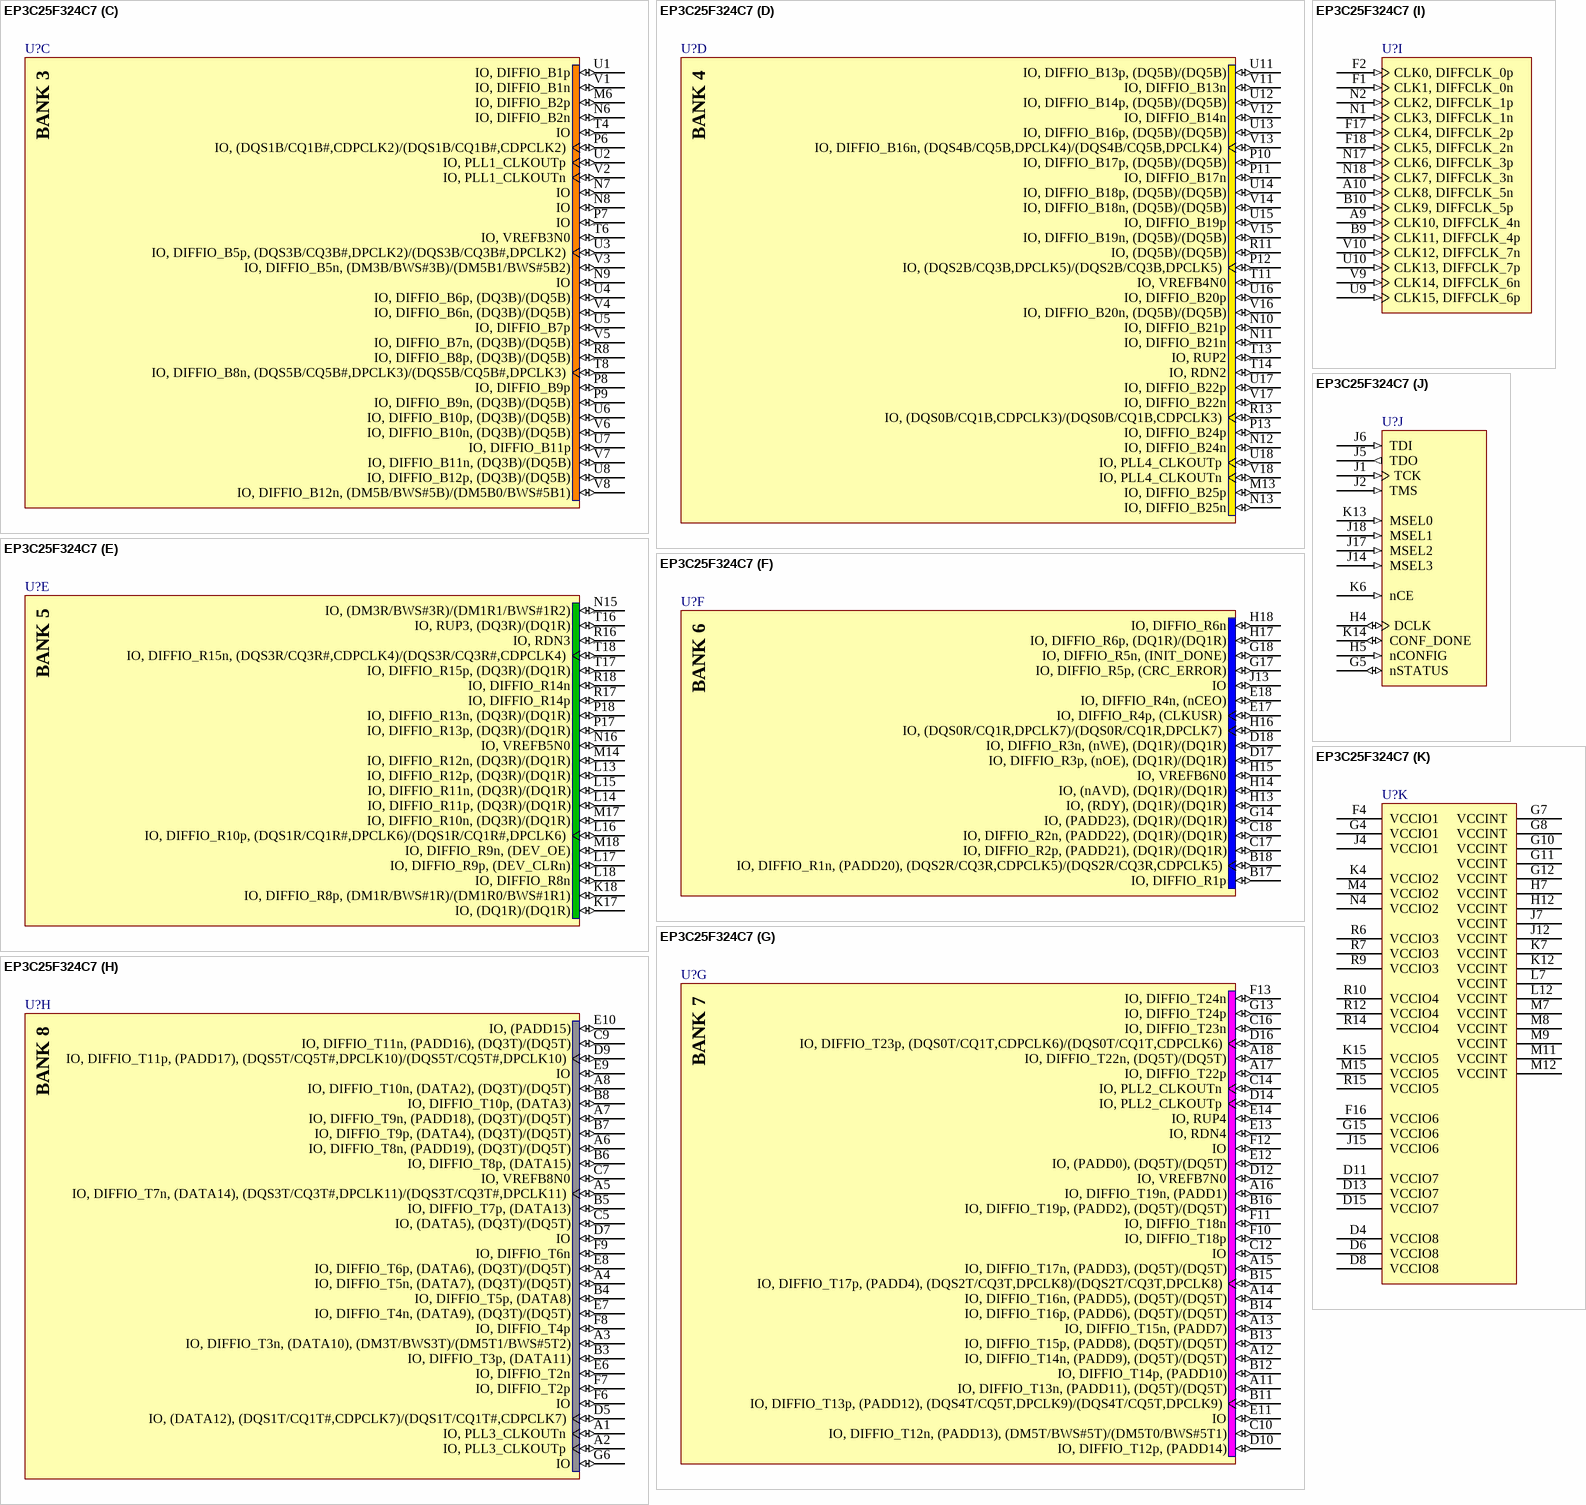
[diagram p144: symbol EP3C25F324C7]

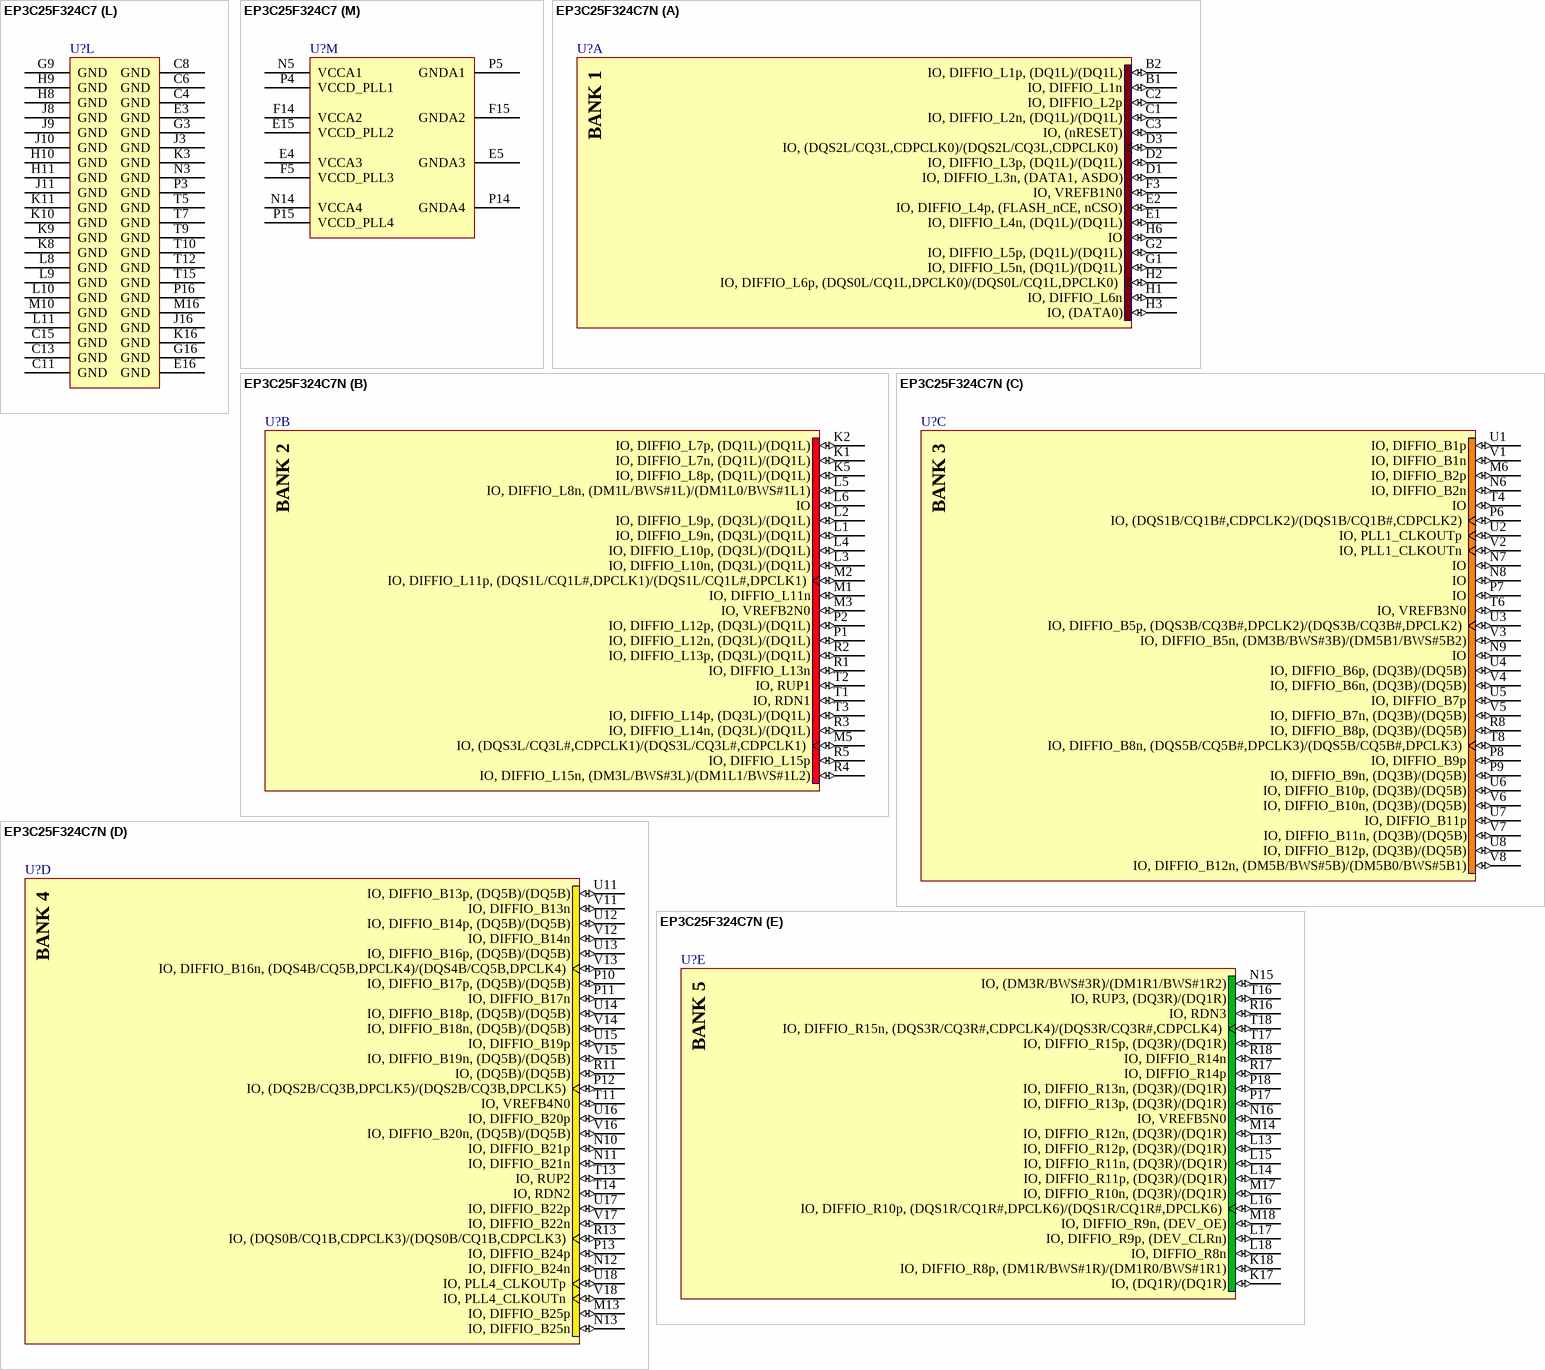
[diagram p145: symbols EP3C25F324C7 to EP3C25F324C7N]